# Altium integrated library Xilinx XC4000 E.IntLib: 265 symbols (part 12 of 26)
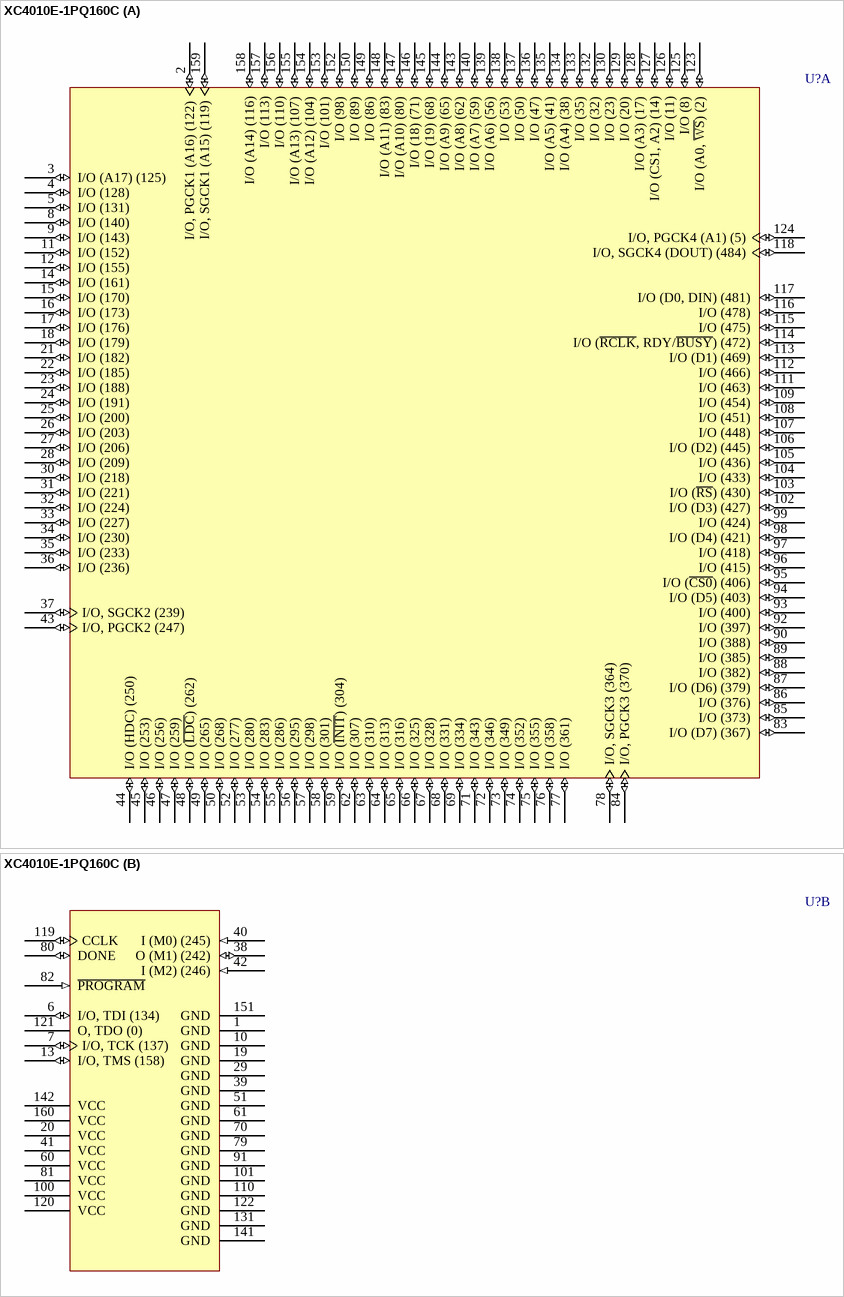
[diagram p282: symbol XC4010E-1PQ160C]

## XC4010E-1PQ160C
designator U?
XC4000E FPGA, 160-Pin PQFP, Commercial Grade; ComponentAvailability: Not for New Design; Published: 28-Feb-2003; LatestRevisionDate: 13-Apr-2006; LatestRevisionNote: IPC-7351 Footprint Added.; DatasheetVersion: (v1.6) May-99; PackageVersion: ver1.2, Jun-2004; PackageReference: PQ160; Publisher: Altium Limited; PackageDescription: 160-Pin Plastic Quad Flat Pack (PQ160); Code_JEDEC: MS-022-DD1; Code_IPC: QFP65P3120X3120-160; ComponentLink1Description: Manufacturer Link; ComponentLink1URL: http://www.xilinx.com/; ComponentLink2Description: Datasheet; ComponentLink2URL: http://direct.xilinx.com/bvdocs/publications/4000.pdf
footprint PQ160_N (QFP, 160-Leads, Body 28 x 28mm, Pitch 0.65mm, IPC Medium Density)
footprint PQ160_L (QFP, 160-Leads, Body 28 x 28mm, Pitch 0.65mm, IPC High Density)
footprint PQ160_M (QFP, 160-Leads, Body 28 x 28mm, Pitch 0.65mm, IPC Low Density)
3D model XC4010E-PQ160 (160-Pin Plastic Quad Flat Pack (PQ160))
part A pins: 2 I/O, PGCK1 (A16) (122) (io), 3 I/O (A17) (125) (io), 4 I/O (128) (io), 5 I/O (131) (io), 8 I/O (140) (io), 9 I/O (143) (io), 11 I/O (152) (io), 12 I/O (155) (io), 14 I/O (161) (io), 15 I/O (170) (io), 16 I/O (173) (io), 17 I/O (176) (io), 18 I/O (179) (io), 21 I/O (182) (io), 22 I/O (185) (io), 23 I/O (188) (io), 24 I/O (191) (io), 25 I/O (200) (io), 26 I/O (203) (io), 27 I/O (206) (io), 28 I/O (209) (io), 30 I/O (218) (io), 31 I/O (221) (io), 32 I/O (224) (io), 33 I/O (227) (io), 34 I/O (230) (io), 35 I/O (233) (io), 36 I/O (236) (io), 37 I/O, SGCK2 (239) (io), 43 I/O, PGCK2 (247) (io), 44 I/O (HDC) (250) (io), 45 I/O (253) (io), 46 I/O (256) (io), 47 I/O (259) (io), 48 I/O (~{LDC}) (262) (io), 49 I/O (265) (io), 50 I/O (268) (io), 52 I/O (277) (io), 53 I/O (280) (io), 54 I/O (283) (io), 55 I/O (286) (io), 56 I/O (295) (io), 57 I/O (298) (io), 58 I/O (301) (io), 59 I/O (~{INIT}) (304) (io), 62 I/O (307) (io), 63 I/O (310) (io), 64 I/O (313) (io), 65 I/O (316) (io), 66 I/O (325) (io), 67 I/O (328) (io), 68 I/O (331) (io), 69 I/O (334) (io), 71 I/O (343) (io), 72 I/O (346) (io), 73 I/O (349) (io), 74 I/O (352) (io), 75 I/O (355) (io), 76 I/O (358) (io), 77 I/O (361) (io), 78 I/O, SGCK3 (364) (io), 83 I/O (D7) (367) (io), 84 I/O, PGCK3 (370) (io), 85 I/O (373) (io), 86 I/O (376) (io), 87 I/O (D6) (379) (io), 88 I/O (382) (io), 89 I/O (385) (io), 90 I/O (388) (io), 92 I/O (397) (io), 93 I/O (400) (io), 94 I/O (D5) (403) (io), 95 I/O (~{CS0}) (406) (io), 96 I/O (415) (io), 97 I/O (418) (io), 98 I/O (D4) (421) (io), 99 I/O (424) (io), 102 I/O (D3) (427) (io), 103 I/O (~{RS}) (430) (io), 104 I/O (433) (io), 105 I/O (436) (io), 106 I/O (D2) (445) (io), 107 I/O (448) (io), 108 I/O (451) (io), 109 I/O (454) (io), 111 I/O (463) (io), 112 I/O (466) (io), 113 I/O (D1) (469) (io), 114 I/O (~{RCLK}, RDY/~{BUSY}) (472) (io), 115 I/O (475) (io), 116 I/O (478) (io), 117 I/O (D0, DIN) (481) (io), 118 I/O, SGCK4 (DOUT) (484) (io), 123 I/O (A0, ~{WS}) (2) (io), 124 I/O, PGCK4 (A1) (5) (io), 125 I/O (8) (io), 126 I/O (11) (io), 127 I/O (CS1, A2) (14) (io), 128 I/O (A3) (17) (io), 129 I/O (20) (io), 130 I/O (23) (io), 132 I/O (32) (io), 133 I/O (35) (io), 134 I/O (A4) (38) (io), 135 I/O (A5) (41) (io), 136 I/O (47) (io), 137 I/O (50) (io), 138 I/O (53) (io), 139 I/O (A6) (56) (io), 140 I/O (A7) (59) (io), 143 I/O (A8) (62) (io), 144 I/O (A9) (65) (io), 145 I/O (19) (68) (io), 146 I/O (18) (71) (io), 147 I/O (A10) (80) (io), 148 I/O (A11) (83) (io), 149 I/O (86) (io), 150 I/O (89) (io), 152 I/O (98) (io), 153 I/O (101) (io), 154 I/O (A12) (104) (io), 155 I/O (A13) (107) (io), 156 I/O (110) (io), 157 I/O (113) (io), 158 I/O (A14) (116) (io), 159 I/O, SGCK1 (A15) (119) (io)
part B pins: 1 GND (power), 6 I/O, TDI (134) (io), 7 I/O, TCK (137) (io), 10 GND (power), 13 I/O, TMS (158) (io), 19 GND (power), 20 VCC (power), 29 GND (power), 38 O (M1) (242) (io), 39 GND (power), 40 I (M0) (245) (in), 41 VCC (power), 42 I (M2) (246) (in), 51 GND (power), 60 VCC (power), 61 GND (power), 70 GND (power), 79 GND (power), 80 DONE (io), 81 VCC (power), 82 ~{PROGRAM} (in), 91 GND (power), 100 VCC (power), 101 GND (power), 110 GND (power), 119 CCLK (io), 120 VCC (power), 121 O, TDO (0) (hiz), 122 GND (power), 131 GND (power), 141 GND (power), 142 VCC (power), 151 GND (power), 160 VCC (power)

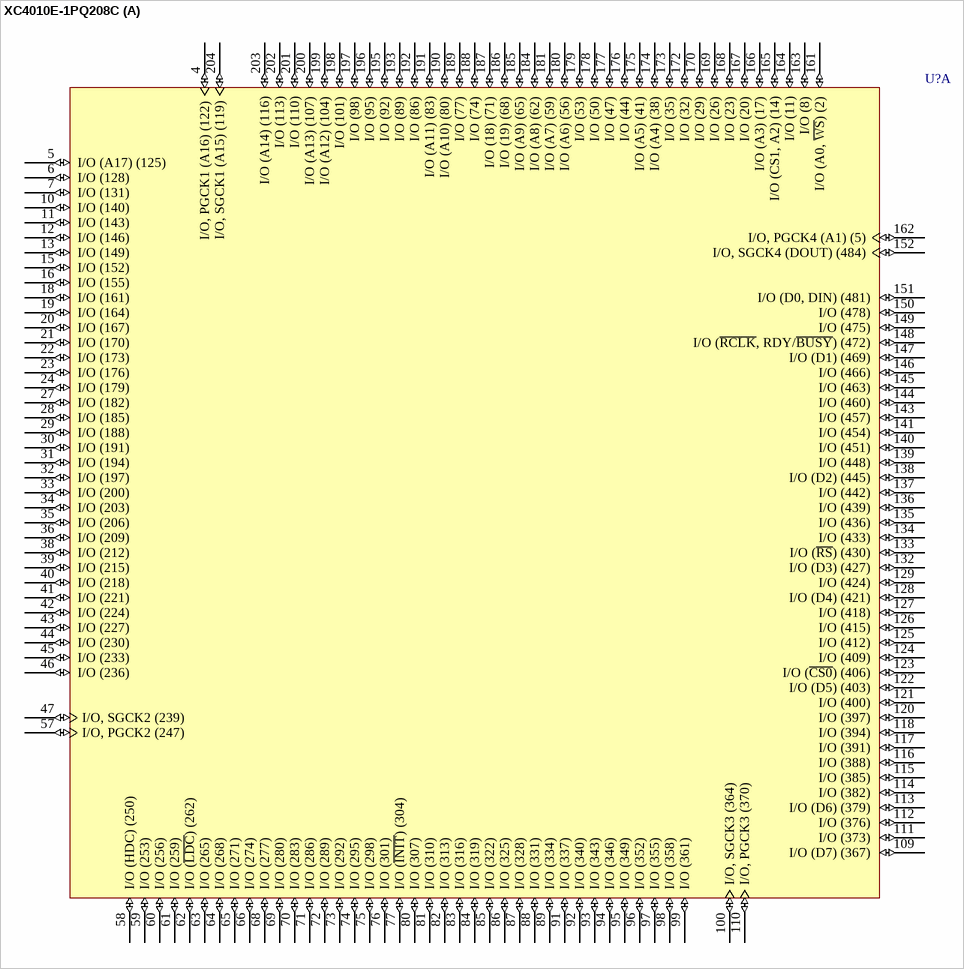
[diagram p102: symbol XC4010E-1PQ208C]

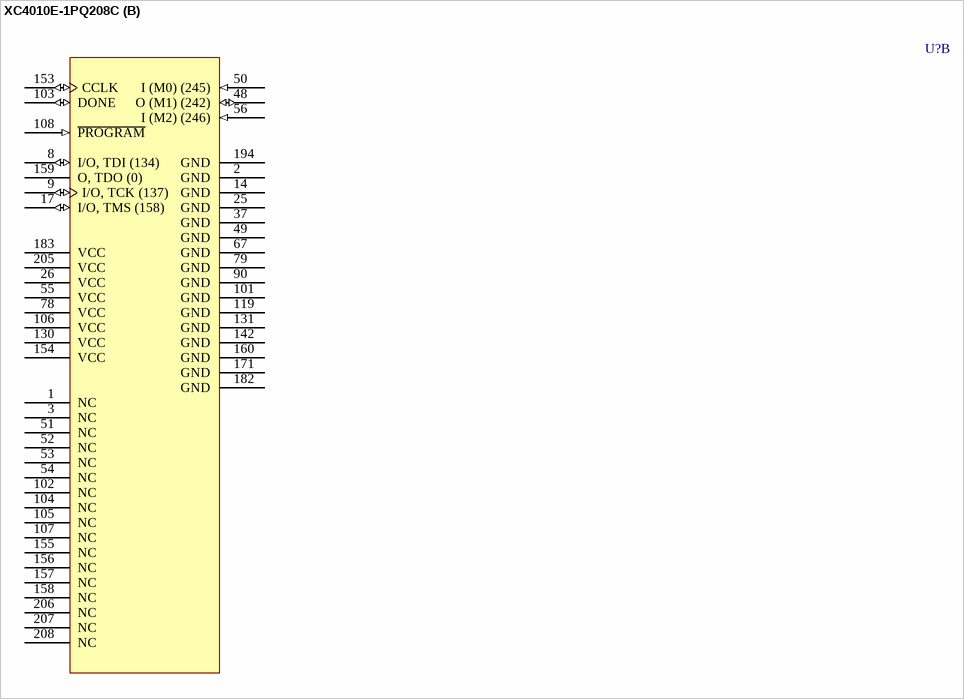
[diagram p103: symbol XC4010E-1PQ208C]

## XC4010E-1PQ208C
designator U?
XC4000E FPGA, 208-Pin PQFP, Commercial Grade; ComponentAvailability: Not for New Design; Published: 28-Feb-2003; LatestRevisionDate: 13-Apr-2006; LatestRevisionNote: IPC-7351 Footprint Added.; DatasheetVersion: (v1.6) May-99; PackageVersion: ver1.2, Jun-2004; PackageReference: PQ208; Publisher: Altium Limited; PackageDescription: 208-Pin Plastic Quad Flat Pack (PQ208); Code_JEDEC: MS-029-FA-1; ComponentLink1Description: Manufacturer Link; ComponentLink1URL: http://www.xilinx.com/; ComponentLink2Description: Datasheet; ComponentLink2URL: http://direct.xilinx.com/bvdocs/publications/4000.pdf
footprint PQ208_N (Shrink QFP, 208-Leads, Body 28x28mm, Pitch 0.5mm, IPC Medium Density)
footprint PQ208_L (Shrink QFP, 208-Leads, Body 28x28mm, Pitch 0.5mm, IPC High Density)
footprint PQ208_M (Shrink QFP, 208-Leads, Body 28x28mm, Pitch 0.5mm, IPC Low Density)
3D model XC4010E-PQ208 (208-Pin Plastic Quad Flat Pack (PQ208))
part A pins: 4 I/O, PGCK1 (A16) (122) (io), 5 I/O (A17) (125) (io), 6 I/O (128) (io), 7 I/O (131) (io), 10 I/O (140) (io), 11 I/O (143) (io), 12 I/O (146) (io), 13 I/O (149) (io), 15 I/O (152) (io), 16 I/O (155) (io), 18 I/O (161) (io), 19 I/O (164) (io), 20 I/O (167) (io), 21 I/O (170) (io), 22 I/O (173) (io), 23 I/O (176) (io), 24 I/O (179) (io), 27 I/O (182) (io), 28 I/O (185) (io), 29 I/O (188) (io), 30 I/O (191) (io), 31 I/O (194) (io), 32 I/O (197) (io), 33 I/O (200) (io), 34 I/O (203) (io), 35 I/O (206) (io), 36 I/O (209) (io), 38 I/O (212) (io), 39 I/O (215) (io), 40 I/O (218) (io), 41 I/O (221) (io), 42 I/O (224) (io), 43 I/O (227) (io), 44 I/O (230) (io), 45 I/O (233) (io), 46 I/O (236) (io), 47 I/O, SGCK2 (239) (io), 57 I/O, PGCK2 (247) (io), 58 I/O (HDC) (250) (io), 59 I/O (253) (io), 60 I/O (256) (io), 61 I/O (259) (io), 62 I/O (~{LDC}) (262) (io), 63 I/O (265) (io), 64 I/O (268) (io), 65 I/O (271) (io), 66 I/O (274) (io), 68 I/O (277) (io), 69 I/O (280) (io), 70 I/O (283) (io), 71 I/O (286) (io), 72 I/O (289) (io), 73 I/O (292) (io), 74 I/O (295) (io), 75 I/O (298) (io), 76 I/O (301) (io), 77 I/O (~{INIT}) (304) (io), 80 I/O (307) (io), 81 I/O (310) (io), 82 I/O (313) (io), 83 I/O (316) (io), 84 I/O (319) (io), 85 I/O (322) (io), 86 I/O (325) (io), 87 I/O (328) (io), 88 I/O (331) (io), 89 I/O (334) (io), 91 I/O (337) (io), 92 I/O (340) (io), 93 I/O (343) (io), 94 I/O (346) (io), 95 I/O (349) (io), 96 I/O (352) (io), 97 I/O (355) (io), 98 I/O (358) (io), 99 I/O (361) (io), 100 I/O, SGCK3 (364) (io), 109 I/O (D7) (367) (io), 110 I/O, PGCK3 (370) (io), 111 I/O (373) (io), 112 I/O (376) (io), 113 I/O (D6) (379) (io), 114 I/O (382) (io), 115 I/O (385) (io), 116 I/O (388) (io), 117 I/O (391) (io), 118 I/O (394) (io), 120 I/O (397) (io), 121 I/O (400) (io), 122 I/O (D5) (403) (io), 123 I/O (~{CS0}) (406) (io), 124 I/O (409) (io), 125 I/O (412) (io), 126 I/O (415) (io), 127 I/O (418) (io), 128 I/O (D4) (421) (io), 129 I/O (424) (io), 132 I/O (D3) (427) (io), 133 I/O (~{RS}) (430) (io), 134 I/O (433) (io), 135 I/O (436) (io), 136 I/O (439) (io), 137 I/O (442) (io), 138 I/O (D2) (445) (io), 139 I/O (448) (io), 140 I/O (451) (io), 141 I/O (454) (io), 143 I/O (457) (io), 144 I/O (460) (io), 145 I/O (463) (io), 146 I/O (466) (io), 147 I/O (D1) (469) (io), 148 I/O (~{RCLK}, RDY/~{BUSY}) (472) (io), 149 I/O (475) (io), 150 I/O (478) (io), 151 I/O (D0, DIN) (481) (io), 152 I/O, SGCK4 (DOUT) (484) (io), 161 I/O (A0, ~{WS}) (2) (io), 162 I/O, PGCK4 (A1) (5) (io), 163 I/O (8) (io), 164 I/O (11) (io), 165 I/O (CS1, A2) (14) (io), 166 I/O (A3) (17) (io), 167 I/O (20) (io), 168 I/O (23) (io), 169 I/O (26) (io), 170 I/O (29) (io), 172 I/O (32) (io), 173 I/O (35) (io), 174 I/O (A4) (38) (io), 175 I/O (A5) (41) (io), 176 I/O (44) (io), 177 I/O (47) (io), 178 I/O (50) (io), 179 I/O (53) (io), 180 I/O (A6) (56) (io), 181 I/O (A7) (59) (io), 184 I/O (A8) (62) (io), 185 I/O (A9) (65) (io), 186 I/O (19) (68) (io), 187 I/O (18) (71) (io), 188 I/O (74) (io), 189 I/O (77) (io), 190 I/O (A10) (80) (io), 191 I/O (A11) (83) (io), 192 I/O (86) (io), 193 I/O (89) (io), 195 I/O (92) (io), 196 I/O (95) (io), 197 I/O (98) (io), 198 I/O (101) (io), 199 I/O (A12) (104) (io), 200 I/O (A13) (107) (io), 201 I/O (110) (io), 202 I/O (113) (io), 203 I/O (A14) (116) (io), 204 I/O, SGCK1 (A15) (119) (io)
part B pins: 1 NC, 2 GND (power), 3 NC, 8 I/O, TDI (134) (io), 9 I/O, TCK (137) (io), 14 GND (power), 17 I/O, TMS (158) (io), 25 GND (power), 26 VCC (power), 37 GND (power), 48 O (M1) (242) (io), 49 GND (power), 50 I (M0) (245) (in), 51 NC, 52 NC, 53 NC, 54 NC, 55 VCC (power), 56 I (M2) (246) (in), 67 GND (power), 78 VCC (power), 79 GND (power), 90 GND (power), 101 GND (power), 102 NC, 103 DONE (io), 104 NC, 105 NC, 106 VCC (power), 107 NC, 108 ~{PROGRAM} (in), 119 GND (power), 130 VCC (power), 131 GND (power), 142 GND (power), 153 CCLK (io), 154 VCC (power), 155 NC, 156 NC, 157 NC, 158 NC, 159 O, TDO (0) (hiz), 160 GND (power), 171 GND (power), 182 GND (power), 183 VCC (power), 194 GND (power), 205 VCC (power), 206 NC, 207 NC, 208 NC

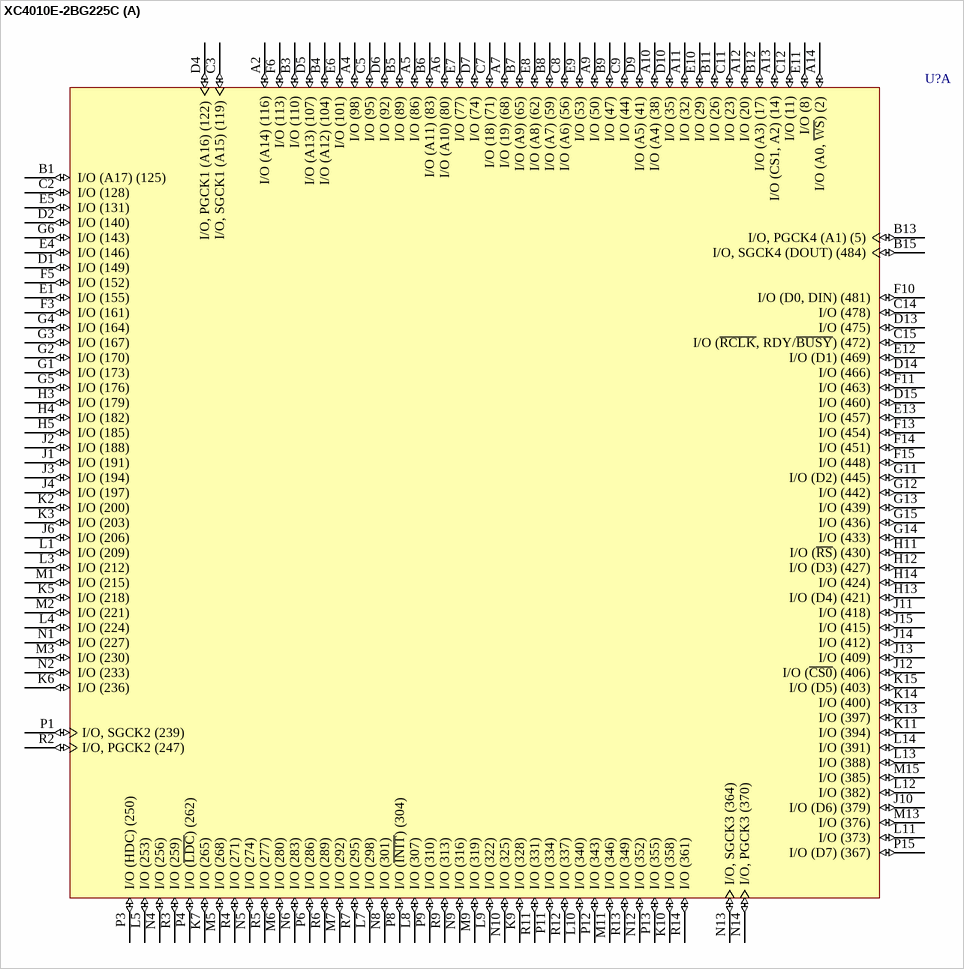
[diagram p104: symbol XC4010E-2BG225C]

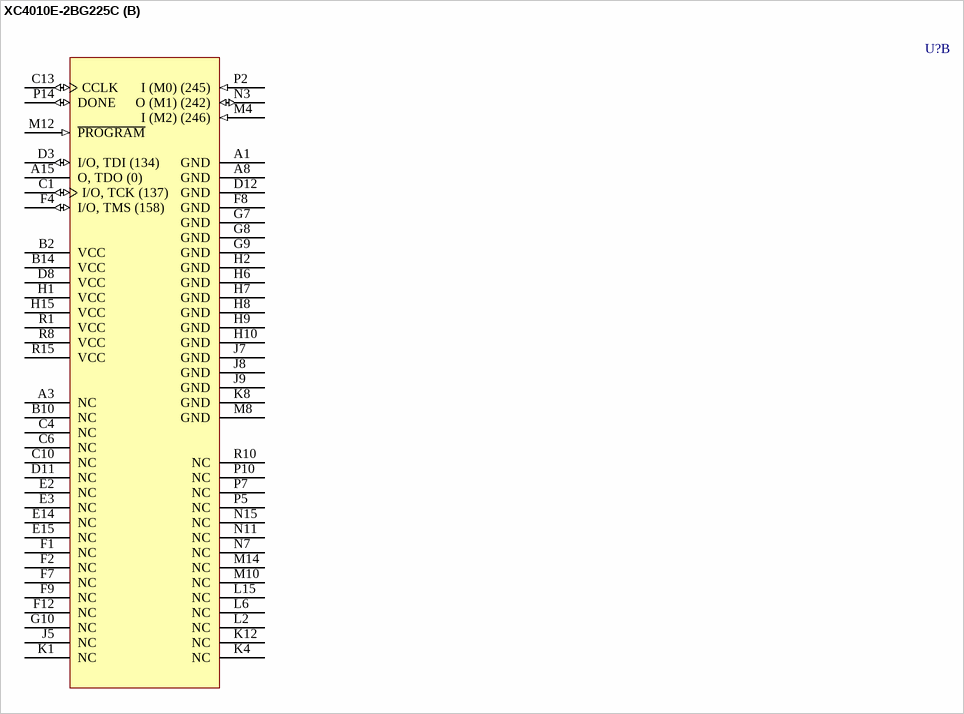
[diagram p105: symbol XC4010E-2BG225C]

## XC4010E-2BG225C
designator U?
XC4000E FPGA, 225-Ball BGA, Commercial Grade; ComponentAvailability: Not for New Design; Published: 28-Feb-2003; LatestRevisionDate: 13-Apr-2006; LatestRevisionNote: IPC-7351 Footprint Added.; DatasheetVersion: (v1.6) May-99; PackageVersion: ver1.1, Apr-2001; PackageReference: BG225; Publisher: Altium Limited; PackageDescription: 225-Ball Plastic Ball Grid Array (BG225); ComponentLink1Description: Manufacturer Link; ComponentLink1URL: http://www.xilinx.com/; ComponentLink2Description: Datasheet; ComponentLink2URL: http://direct.xilinx.com/bvdocs/publications/4000.pdf
footprint BG225 (BGA, 225-Leads, Body 27x27mm, Pitch 1.5mm)
3D model XC4010E-BG225 (225-Ball Plastic Ball Grid Array (BG225))
part A pins: A2 I/O (A14) (116) (io), A4 I/O (98) (io), A5 I/O (86) (io), A6 I/O (A10) (80) (io), A7 I/O (19) (68) (io), A9 I/O (50) (io), A10 I/O (A4) (38) (io), A11 I/O (32) (io), A12 I/O (20) (io), A13 I/O (CS1, A2) (14) (io), A14 I/O (A0, ~{WS}) (2) (io), B1 I/O (A17) (125) (io), B3 I/O (110) (io), B4 I/O (A12) (104) (io), B5 I/O (89) (io), B6 I/O (A11) (83) (io), B7 I/O (A9) (65) (io), B8 I/O (A7) (59) (io), B9 I/O (47) (io), B11 I/O (26) (io), B12 I/O (A3) (17) (io), B13 I/O, PGCK4 (A1) (5) (io), B15 I/O, SGCK4 (DOUT) (484) (io), C2 I/O (128) (io), C3 I/O, SGCK1 (A15) (119) (io), C5 I/O (95) (io), C7 I/O (18) (71) (io), C8 I/O (A6) (56) (io), C9 I/O (44) (io), C11 I/O (23) (io), C12 I/O (11) (io), C14 I/O (478) (io), C15 I/O (~{RCLK}, RDY/~{BUSY}) (472) (io), D1 I/O (149) (io), D2 I/O (140) (io), D4 I/O, PGCK1 (A16) (122) (io), D5 I/O (A13) (107) (io), D6 I/O (92) (io), D7 I/O (74) (io), D9 I/O (A5) (41) (io), D10 I/O (35) (io), D13 I/O (475) (io), D14 I/O (466) (io), D15 I/O (460) (io), E1 I/O (155) (io), E4 I/O (146) (io), E5 I/O (131) (io), E6 I/O (101) (io), E7 I/O (77) (io), E8 I/O (A8) (62) (io), E9 I/O (53) (io), E10 I/O (29) (io), E11 I/O (8) (io), E12 I/O (D1) (469) (io), E13 I/O (457) (io), F3 I/O (161) (io), F5 I/O (152) (io), F6 I/O (113) (io), F10 I/O (D0, DIN) (481) (io), F11 I/O (463) (io), F13 I/O (454) (io), F14 I/O (451) (io), F15 I/O (448) (io), G1 I/O (173) (io), G2 I/O (170) (io), G3 I/O (167) (io), G4 I/O (164) (io), G5 I/O (176) (io), G6 I/O (143) (io), G11 I/O (D2) (445) (io), G12 I/O (442) (io), G13 I/O (439) (io), G14 I/O (433) (io), G15 I/O (436) (io), H3 I/O (179) (io), H4 I/O (182) (io), H5 I/O (185) (io), H11 I/O (~{RS}) (430) (io), H12 I/O (D3) (427) (io), H13 I/O (D4) (421) (io), H14 I/O (424) (io), J1 I/O (191) (io), J2 I/O (188) (io), J3 I/O (194) (io), J4 I/O (197) (io), J6 I/O (206) (io), J10 I/O (D6) (379) (io), J11 I/O (418) (io), J12 I/O (~{CS0}) (406) (io), J13 I/O (409) (io), J14 I/O (412) (io), J15 I/O (415) (io), K2 I/O (200) (io), K3 I/O (203) (io), K5 I/O (218) (io), K6 I/O (236) (io), K7 I/O (265) (io), K9 I/O (328) (io), K10 I/O (358) (io), K11 I/O (394) (io), K13 I/O (397) (io), K14 I/O (400) (io), K15 I/O (D5) (403) (io), L1 I/O (209) (io), L3 I/O (212) (io), L4 I/O (224) (io), L5 I/O (253) (io), L7 I/O (298) (io), L8 I/O (307) (io), L9 I/O (322) (io), L10 I/O (340) (io), L11 I/O (373) (io), L12 I/O (382) (io), L13 I/O (388) (io), L14 I/O (391) (io), M1 I/O (215) (io), M2 I/O (221) (io), M3 I/O (230) (io), M5 I/O (268) (io), M6 I/O (280) (io), M7 I/O (292) (io), M9 I/O (319) (io), M11 I/O (346) (io), M13 I/O (376) (io), M15 I/O (385) (io), N1 I/O (227) (io), N2 I/O (233) (io), N4 I/O (256) (io), N5 I/O (274) (io), N6 I/O (283) (io), N8 I/O (301) (io), N9 I/O (316) (io), N10 I/O (325) (io), N12 I/O (352) (io), N13 I/O, SGCK3 (364) (io), N14 I/O, PGCK3 (370) (io), P1 I/O, SGCK2 (239) (io), P3 I/O (HDC) (250) (io), P4 I/O (~{LDC}) (262) (io), P6 I/O (286) (io), P8 I/O (~{INIT}) (304) (io), P9 I/O (310) (io), P11 I/O (334) (io), P12 I/O (343) (io), P13 I/O (355) (io), P15 I/O (D7) (367) (io), R2 I/O, PGCK2 (247) (io), R3 I/O (259) (io), R4 I/O (271) (io), R5 I/O (277) (io), R6 I/O (289) (io), R7 I/O (295) (io), R9 I/O (313) (io), R11 I/O (331) (io), R12 I/O (337) (io), R13 I/O (349) (io), R14 I/O (361) (io)
part B pins: A1 GND (power), A3 NC, A8 GND (power), A15 O, TDO (0) (hiz), B2 VCC (power), B10 NC, B14 VCC (power), C1 I/O, TCK (137) (io), C4 NC, C6 NC, C10 NC, C13 CCLK (io), D3 I/O, TDI (134) (io), D8 VCC (power), D11 NC, D12 GND (power), E2 NC, E3 NC, E14 NC, E15 NC, F1 NC, F2 NC, F4 I/O, TMS (158) (io), F7 NC, F8 GND (power), F9 NC, F12 NC, G7 GND (power), G8 GND (power), G9 GND (power), G10 NC, H1 VCC (power), H2 GND (power), H6 GND (power), H7 GND (power), H8 GND (power), H9 GND (power), H10 GND (power), H15 VCC (power), J5 NC, J7 GND (power), J8 GND (power), J9 GND (power), K1 NC, K4 NC, K8 GND (power), K12 NC, L2 NC, L6 NC, L15 NC, M4 I (M2) (246) (in), M8 GND (power), M10 NC, M12 ~{PROGRAM} (in), M14 NC, N3 O (M1) (242) (io), N7 NC, N11 NC, N15 NC, P2 I (M0) (245) (in), P5 NC, P7 NC, P10 NC, P14 DONE (io), R1 VCC (power), R8 VCC (power), R10 NC, R15 VCC (power)

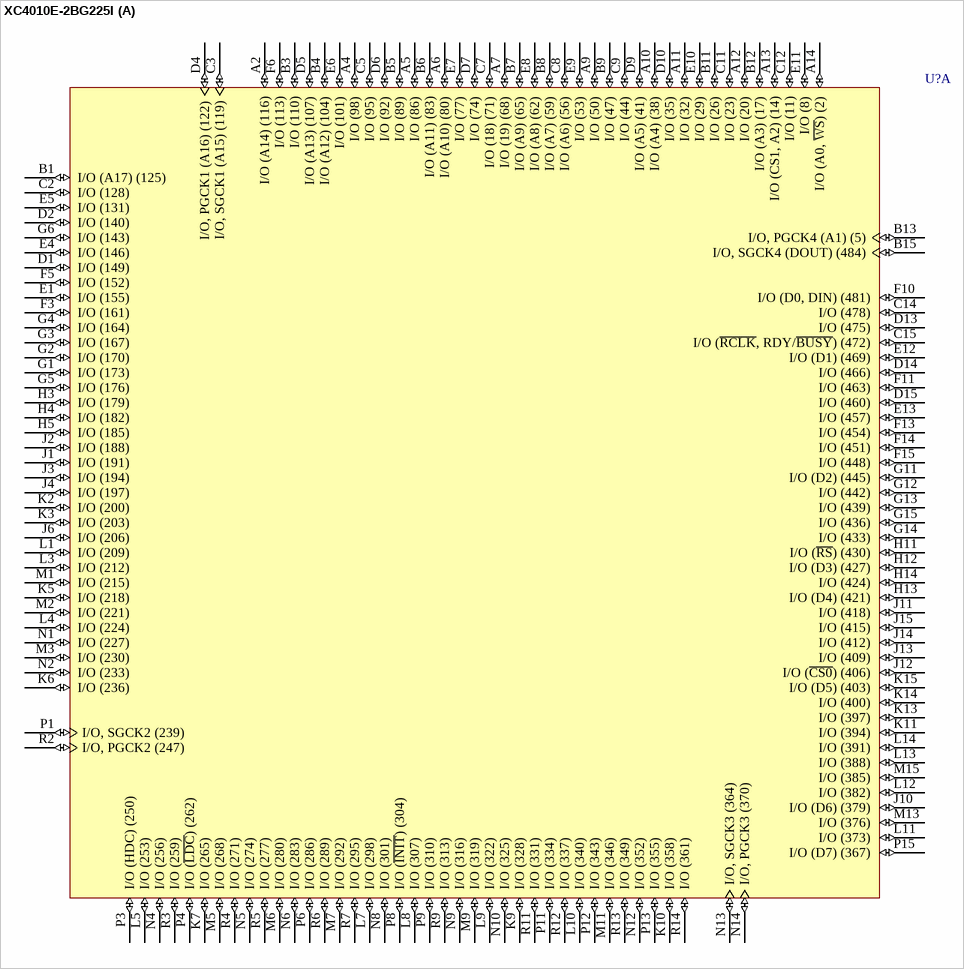
[diagram p106: symbol XC4010E-2BG225I]

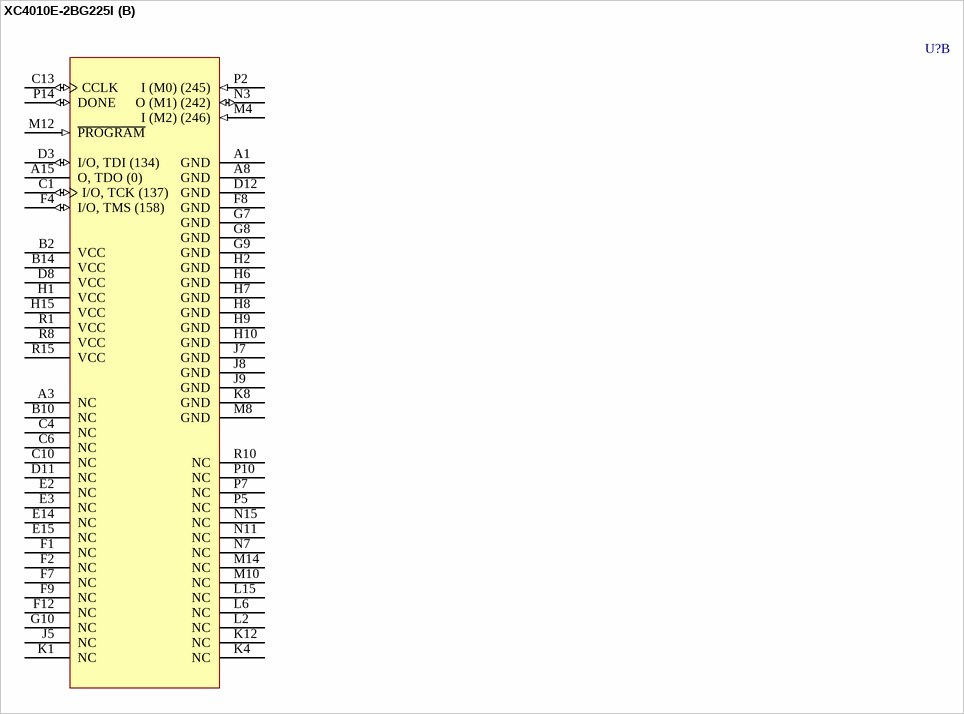
[diagram p107: symbol XC4010E-2BG225I]

## XC4010E-2BG225I
designator U?
XC4000E FPGA, 225-Ball BGA, Industrial Grade; ComponentAvailability: Not for New Design; Published: 28-Feb-2003; LatestRevisionDate: 13-Apr-2006; LatestRevisionNote: IPC-7351 Footprint Added.; DatasheetVersion: (v1.6) May-99; PackageVersion: ver1.1, Apr-2001; PackageReference: BG225; Publisher: Altium Limited; PackageDescription: 225-Ball Plastic Ball Grid Array (BG225); ComponentLink1Description: Manufacturer Link; ComponentLink1URL: http://www.xilinx.com/; ComponentLink2Description: Datasheet; ComponentLink2URL: http://direct.xilinx.com/bvdocs/publications/4000.pdf
footprint BG225 (BGA, 225-Leads, Body 27x27mm, Pitch 1.5mm)
3D model XC4010E-BG225 (225-Ball Plastic Ball Grid Array (BG225))
part A pins: A2 I/O (A14) (116) (io), A4 I/O (98) (io), A5 I/O (86) (io), A6 I/O (A10) (80) (io), A7 I/O (19) (68) (io), A9 I/O (50) (io), A10 I/O (A4) (38) (io), A11 I/O (32) (io), A12 I/O (20) (io), A13 I/O (CS1, A2) (14) (io), A14 I/O (A0, ~{WS}) (2) (io), B1 I/O (A17) (125) (io), B3 I/O (110) (io), B4 I/O (A12) (104) (io), B5 I/O (89) (io), B6 I/O (A11) (83) (io), B7 I/O (A9) (65) (io), B8 I/O (A7) (59) (io), B9 I/O (47) (io), B11 I/O (26) (io), B12 I/O (A3) (17) (io), B13 I/O, PGCK4 (A1) (5) (io), B15 I/O, SGCK4 (DOUT) (484) (io), C2 I/O (128) (io), C3 I/O, SGCK1 (A15) (119) (io), C5 I/O (95) (io), C7 I/O (18) (71) (io), C8 I/O (A6) (56) (io), C9 I/O (44) (io), C11 I/O (23) (io), C12 I/O (11) (io), C14 I/O (478) (io), C15 I/O (~{RCLK}, RDY/~{BUSY}) (472) (io), D1 I/O (149) (io), D2 I/O (140) (io), D4 I/O, PGCK1 (A16) (122) (io), D5 I/O (A13) (107) (io), D6 I/O (92) (io), D7 I/O (74) (io), D9 I/O (A5) (41) (io), D10 I/O (35) (io), D13 I/O (475) (io), D14 I/O (466) (io), D15 I/O (460) (io), E1 I/O (155) (io), E4 I/O (146) (io), E5 I/O (131) (io), E6 I/O (101) (io), E7 I/O (77) (io), E8 I/O (A8) (62) (io), E9 I/O (53) (io), E10 I/O (29) (io), E11 I/O (8) (io), E12 I/O (D1) (469) (io), E13 I/O (457) (io), F3 I/O (161) (io), F5 I/O (152) (io), F6 I/O (113) (io), F10 I/O (D0, DIN) (481) (io), F11 I/O (463) (io), F13 I/O (454) (io), F14 I/O (451) (io), F15 I/O (448) (io), G1 I/O (173) (io), G2 I/O (170) (io), G3 I/O (167) (io), G4 I/O (164) (io), G5 I/O (176) (io), G6 I/O (143) (io), G11 I/O (D2) (445) (io), G12 I/O (442) (io), G13 I/O (439) (io), G14 I/O (433) (io), G15 I/O (436) (io), H3 I/O (179) (io), H4 I/O (182) (io), H5 I/O (185) (io), H11 I/O (~{RS}) (430) (io), H12 I/O (D3) (427) (io), H13 I/O (D4) (421) (io), H14 I/O (424) (io), J1 I/O (191) (io), J2 I/O (188) (io), J3 I/O (194) (io), J4 I/O (197) (io), J6 I/O (206) (io), J10 I/O (D6) (379) (io), J11 I/O (418) (io), J12 I/O (~{CS0}) (406) (io), J13 I/O (409) (io), J14 I/O (412) (io), J15 I/O (415) (io), K2 I/O (200) (io), K3 I/O (203) (io), K5 I/O (218) (io), K6 I/O (236) (io), K7 I/O (265) (io), K9 I/O (328) (io), K10 I/O (358) (io), K11 I/O (394) (io), K13 I/O (397) (io), K14 I/O (400) (io), K15 I/O (D5) (403) (io), L1 I/O (209) (io), L3 I/O (212) (io), L4 I/O (224) (io), L5 I/O (253) (io), L7 I/O (298) (io), L8 I/O (307) (io), L9 I/O (322) (io), L10 I/O (340) (io), L11 I/O (373) (io), L12 I/O (382) (io), L13 I/O (388) (io), L14 I/O (391) (io), M1 I/O (215) (io), M2 I/O (221) (io), M3 I/O (230) (io), M5 I/O (268) (io), M6 I/O (280) (io), M7 I/O (292) (io), M9 I/O (319) (io), M11 I/O (346) (io), M13 I/O (376) (io), M15 I/O (385) (io), N1 I/O (227) (io), N2 I/O (233) (io), N4 I/O (256) (io), N5 I/O (274) (io), N6 I/O (283) (io), N8 I/O (301) (io), N9 I/O (316) (io), N10 I/O (325) (io), N12 I/O (352) (io), N13 I/O, SGCK3 (364) (io), N14 I/O, PGCK3 (370) (io), P1 I/O, SGCK2 (239) (io), P3 I/O (HDC) (250) (io), P4 I/O (~{LDC}) (262) (io), P6 I/O (286) (io), P8 I/O (~{INIT}) (304) (io), P9 I/O (310) (io), P11 I/O (334) (io), P12 I/O (343) (io), P13 I/O (355) (io), P15 I/O (D7) (367) (io), R2 I/O, PGCK2 (247) (io), R3 I/O (259) (io), R4 I/O (271) (io), R5 I/O (277) (io), R6 I/O (289) (io), R7 I/O (295) (io), R9 I/O (313) (io), R11 I/O (331) (io), R12 I/O (337) (io), R13 I/O (349) (io), R14 I/O (361) (io)
part B pins: A1 GND (power), A3 NC, A8 GND (power), A15 O, TDO (0) (hiz), B2 VCC (power), B10 NC, B14 VCC (power), C1 I/O, TCK (137) (io), C4 NC, C6 NC, C10 NC, C13 CCLK (io), D3 I/O, TDI (134) (io), D8 VCC (power), D11 NC, D12 GND (power), E2 NC, E3 NC, E14 NC, E15 NC, F1 NC, F2 NC, F4 I/O, TMS (158) (io), F7 NC, F8 GND (power), F9 NC, F12 NC, G7 GND (power), G8 GND (power), G9 GND (power), G10 NC, H1 VCC (power), H2 GND (power), H6 GND (power), H7 GND (power), H8 GND (power), H9 GND (power), H10 GND (power), H15 VCC (power), J5 NC, J7 GND (power), J8 GND (power), J9 GND (power), K1 NC, K4 NC, K8 GND (power), K12 NC, L2 NC, L6 NC, L15 NC, M4 I (M2) (246) (in), M8 GND (power), M10 NC, M12 ~{PROGRAM} (in), M14 NC, N3 O (M1) (242) (io), N7 NC, N11 NC, N15 NC, P2 I (M0) (245) (in), P5 NC, P7 NC, P10 NC, P14 DONE (io), R1 VCC (power), R8 VCC (power), R10 NC, R15 VCC (power)

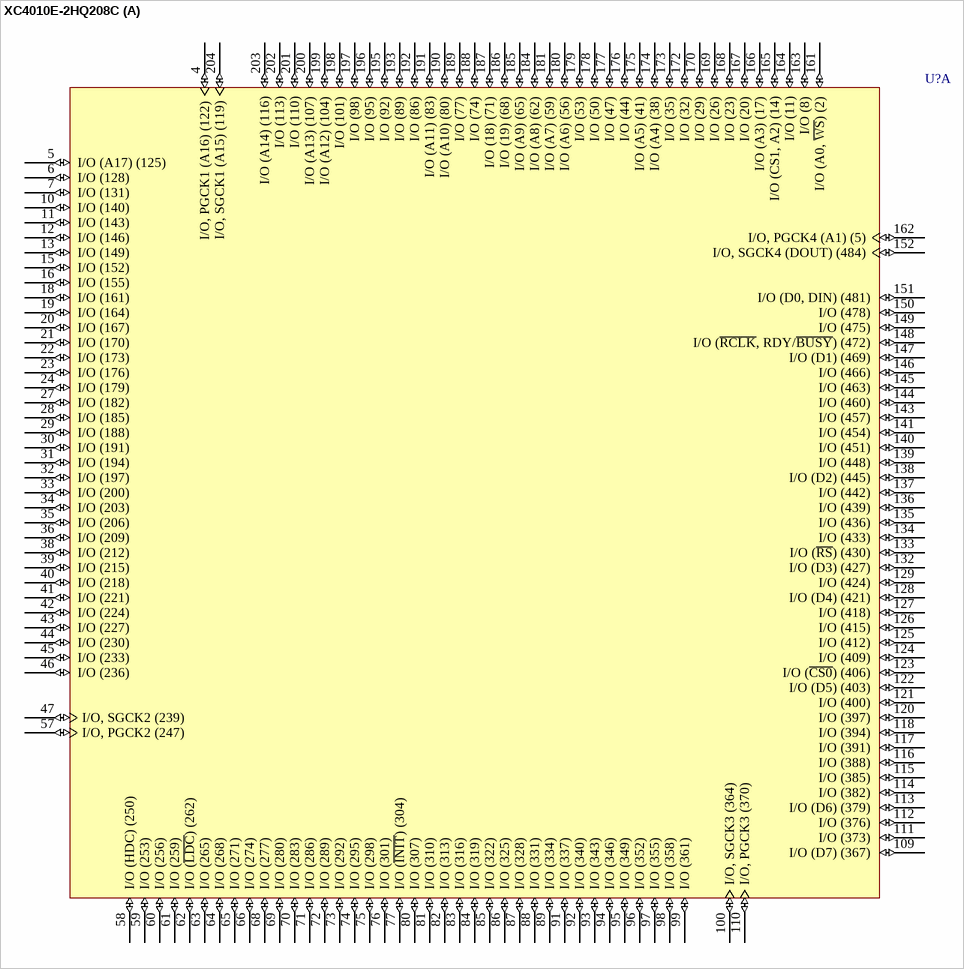
[diagram p108: symbol XC4010E-2HQ208C]

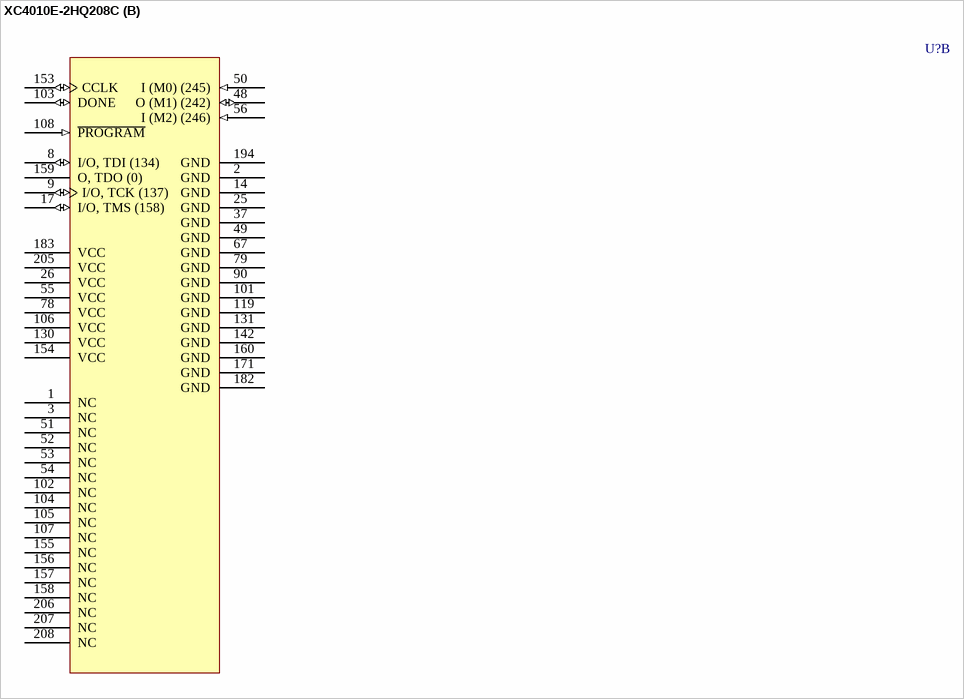
[diagram p109: symbol XC4010E-2HQ208C]

## XC4010E-2HQ208C
designator U?
XC4000E FPGA, 208-Pin HQFP, Commercial Grade; ComponentAvailability: Not for New Design; Published: 28-Feb-2003; LatestRevisionDate: 13-Apr-2006; LatestRevisionNote: IPC-7351 Footprint Added.; DatasheetVersion: (v1.6) May-99; PackageVersion: ver1.2, Jun-2004; PackageReference: HQ208; Publisher: Altium Limited; PackageDescription: 208-Pin Heat Sink Quad Flat Pack (HQ208); Code_JEDEC: MS-029-FA-1; ComponentLink1Description: Manufacturer Link; ComponentLink1URL: http://www.xilinx.com/; ComponentLink2Description: Datasheet; ComponentLink2URL: http://direct.xilinx.com/bvdocs/publications/4000.pdf; ComponentLink3Description: Discontinuation Notice; ComponentLink3URL: http://direct.xilinx.com/bvdocs/notifications/pdn2004-21.pdf
footprint HQ208_N (Shrink QFP, 208-Leads, Body 28x28mm, Pitch 0.5mm, IPC Medium Density)
footprint HQ208_L (Shrink QFP, 208-Leads, Body 28x28mm, Pitch 0.5mm, IPC High Density)
footprint HQ208_M (Shrink QFP, 208-Leads, Body 28x28mm, Pitch 0.5mm, IPC Low Density)
3D model XC4010E-HQ208 (208-Pin Heat Sink Quad Flat Pack (HQ208))
part A pins: 4 I/O, PGCK1 (A16) (122) (io), 5 I/O (A17) (125) (io), 6 I/O (128) (io), 7 I/O (131) (io), 10 I/O (140) (io), 11 I/O (143) (io), 12 I/O (146) (io), 13 I/O (149) (io), 15 I/O (152) (io), 16 I/O (155) (io), 18 I/O (161) (io), 19 I/O (164) (io), 20 I/O (167) (io), 21 I/O (170) (io), 22 I/O (173) (io), 23 I/O (176) (io), 24 I/O (179) (io), 27 I/O (182) (io), 28 I/O (185) (io), 29 I/O (188) (io), 30 I/O (191) (io), 31 I/O (194) (io), 32 I/O (197) (io), 33 I/O (200) (io), 34 I/O (203) (io), 35 I/O (206) (io), 36 I/O (209) (io), 38 I/O (212) (io), 39 I/O (215) (io), 40 I/O (218) (io), 41 I/O (221) (io), 42 I/O (224) (io), 43 I/O (227) (io), 44 I/O (230) (io), 45 I/O (233) (io), 46 I/O (236) (io), 47 I/O, SGCK2 (239) (io), 57 I/O, PGCK2 (247) (io), 58 I/O (HDC) (250) (io), 59 I/O (253) (io), 60 I/O (256) (io), 61 I/O (259) (io), 62 I/O (~{LDC}) (262) (io), 63 I/O (265) (io), 64 I/O (268) (io), 65 I/O (271) (io), 66 I/O (274) (io), 68 I/O (277) (io), 69 I/O (280) (io), 70 I/O (283) (io), 71 I/O (286) (io), 72 I/O (289) (io), 73 I/O (292) (io), 74 I/O (295) (io), 75 I/O (298) (io), 76 I/O (301) (io), 77 I/O (~{INIT}) (304) (io), 80 I/O (307) (io), 81 I/O (310) (io), 82 I/O (313) (io), 83 I/O (316) (io), 84 I/O (319) (io), 85 I/O (322) (io), 86 I/O (325) (io), 87 I/O (328) (io), 88 I/O (331) (io), 89 I/O (334) (io), 91 I/O (337) (io), 92 I/O (340) (io), 93 I/O (343) (io), 94 I/O (346) (io), 95 I/O (349) (io), 96 I/O (352) (io), 97 I/O (355) (io), 98 I/O (358) (io), 99 I/O (361) (io), 100 I/O, SGCK3 (364) (io), 109 I/O (D7) (367) (io), 110 I/O, PGCK3 (370) (io), 111 I/O (373) (io), 112 I/O (376) (io), 113 I/O (D6) (379) (io), 114 I/O (382) (io), 115 I/O (385) (io), 116 I/O (388) (io), 117 I/O (391) (io), 118 I/O (394) (io), 120 I/O (397) (io), 121 I/O (400) (io), 122 I/O (D5) (403) (io), 123 I/O (~{CS0}) (406) (io), 124 I/O (409) (io), 125 I/O (412) (io), 126 I/O (415) (io), 127 I/O (418) (io), 128 I/O (D4) (421) (io), 129 I/O (424) (io), 132 I/O (D3) (427) (io), 133 I/O (~{RS}) (430) (io), 134 I/O (433) (io), 135 I/O (436) (io), 136 I/O (439) (io), 137 I/O (442) (io), 138 I/O (D2) (445) (io), 139 I/O (448) (io), 140 I/O (451) (io), 141 I/O (454) (io), 143 I/O (457) (io), 144 I/O (460) (io), 145 I/O (463) (io), 146 I/O (466) (io), 147 I/O (D1) (469) (io), 148 I/O (~{RCLK}, RDY/~{BUSY}) (472) (io), 149 I/O (475) (io), 150 I/O (478) (io), 151 I/O (D0, DIN) (481) (io), 152 I/O, SGCK4 (DOUT) (484) (io), 161 I/O (A0, ~{WS}) (2) (io), 162 I/O, PGCK4 (A1) (5) (io), 163 I/O (8) (io), 164 I/O (11) (io), 165 I/O (CS1, A2) (14) (io), 166 I/O (A3) (17) (io), 167 I/O (20) (io), 168 I/O (23) (io), 169 I/O (26) (io), 170 I/O (29) (io), 172 I/O (32) (io), 173 I/O (35) (io), 174 I/O (A4) (38) (io), 175 I/O (A5) (41) (io), 176 I/O (44) (io), 177 I/O (47) (io), 178 I/O (50) (io), 179 I/O (53) (io), 180 I/O (A6) (56) (io), 181 I/O (A7) (59) (io), 184 I/O (A8) (62) (io), 185 I/O (A9) (65) (io), 186 I/O (19) (68) (io), 187 I/O (18) (71) (io), 188 I/O (74) (io), 189 I/O (77) (io), 190 I/O (A10) (80) (io), 191 I/O (A11) (83) (io), 192 I/O (86) (io), 193 I/O (89) (io), 195 I/O (92) (io), 196 I/O (95) (io), 197 I/O (98) (io), 198 I/O (101) (io), 199 I/O (A12) (104) (io), 200 I/O (A13) (107) (io), 201 I/O (110) (io), 202 I/O (113) (io), 203 I/O (A14) (116) (io), 204 I/O, SGCK1 (A15) (119) (io)
part B pins: 1 NC, 2 GND (power), 3 NC, 8 I/O, TDI (134) (io), 9 I/O, TCK (137) (io), 14 GND (power), 17 I/O, TMS (158) (io), 25 GND (power), 26 VCC (power), 37 GND (power), 48 O (M1) (242) (io), 49 GND (power), 50 I (M0) (245) (in), 51 NC, 52 NC, 53 NC, 54 NC, 55 VCC (power), 56 I (M2) (246) (in), 67 GND (power), 78 VCC (power), 79 GND (power), 90 GND (power), 101 GND (power), 102 NC, 103 DONE (io), 104 NC, 105 NC, 106 VCC (power), 107 NC, 108 ~{PROGRAM} (in), 119 GND (power), 130 VCC (power), 131 GND (power), 142 GND (power), 153 CCLK (io), 154 VCC (power), 155 NC, 156 NC, 157 NC, 158 NC, 159 O, TDO (0) (hiz), 160 GND (power), 171 GND (power), 182 GND (power), 183 VCC (power), 194 GND (power), 205 VCC (power), 206 NC, 207 NC, 208 NC

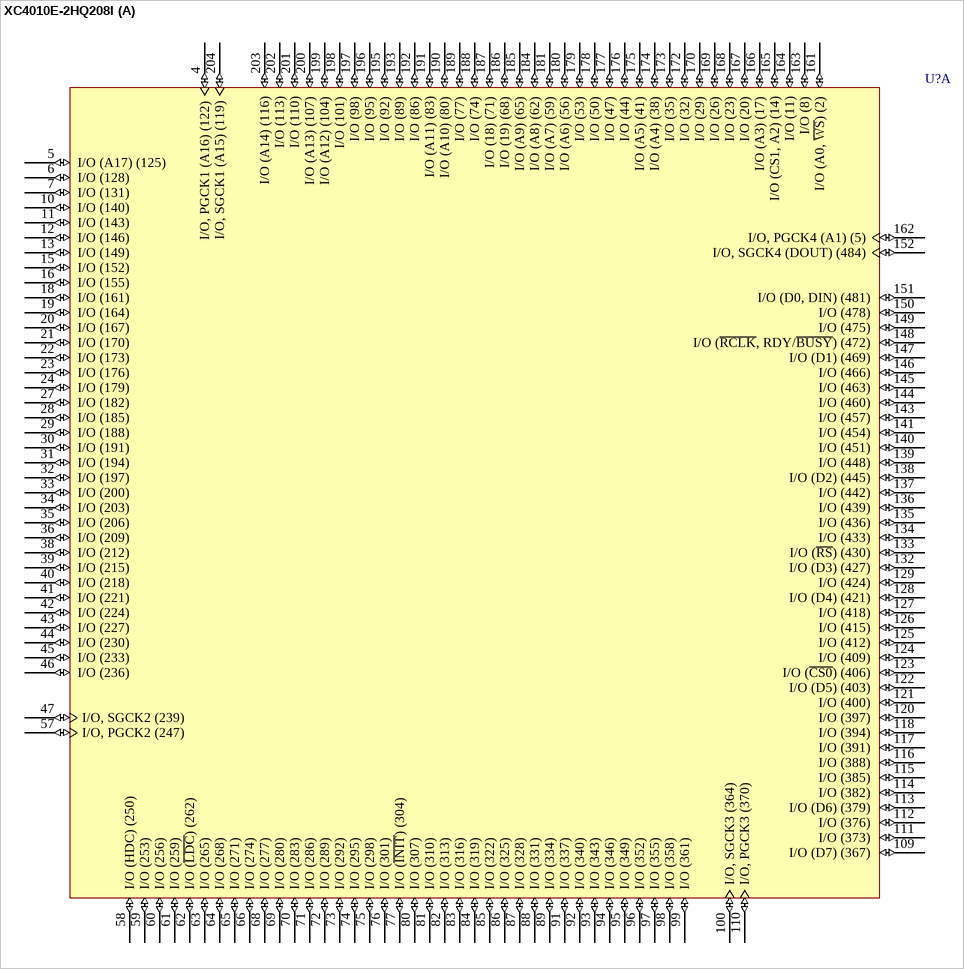
[diagram p110: symbol XC4010E-2HQ208I]

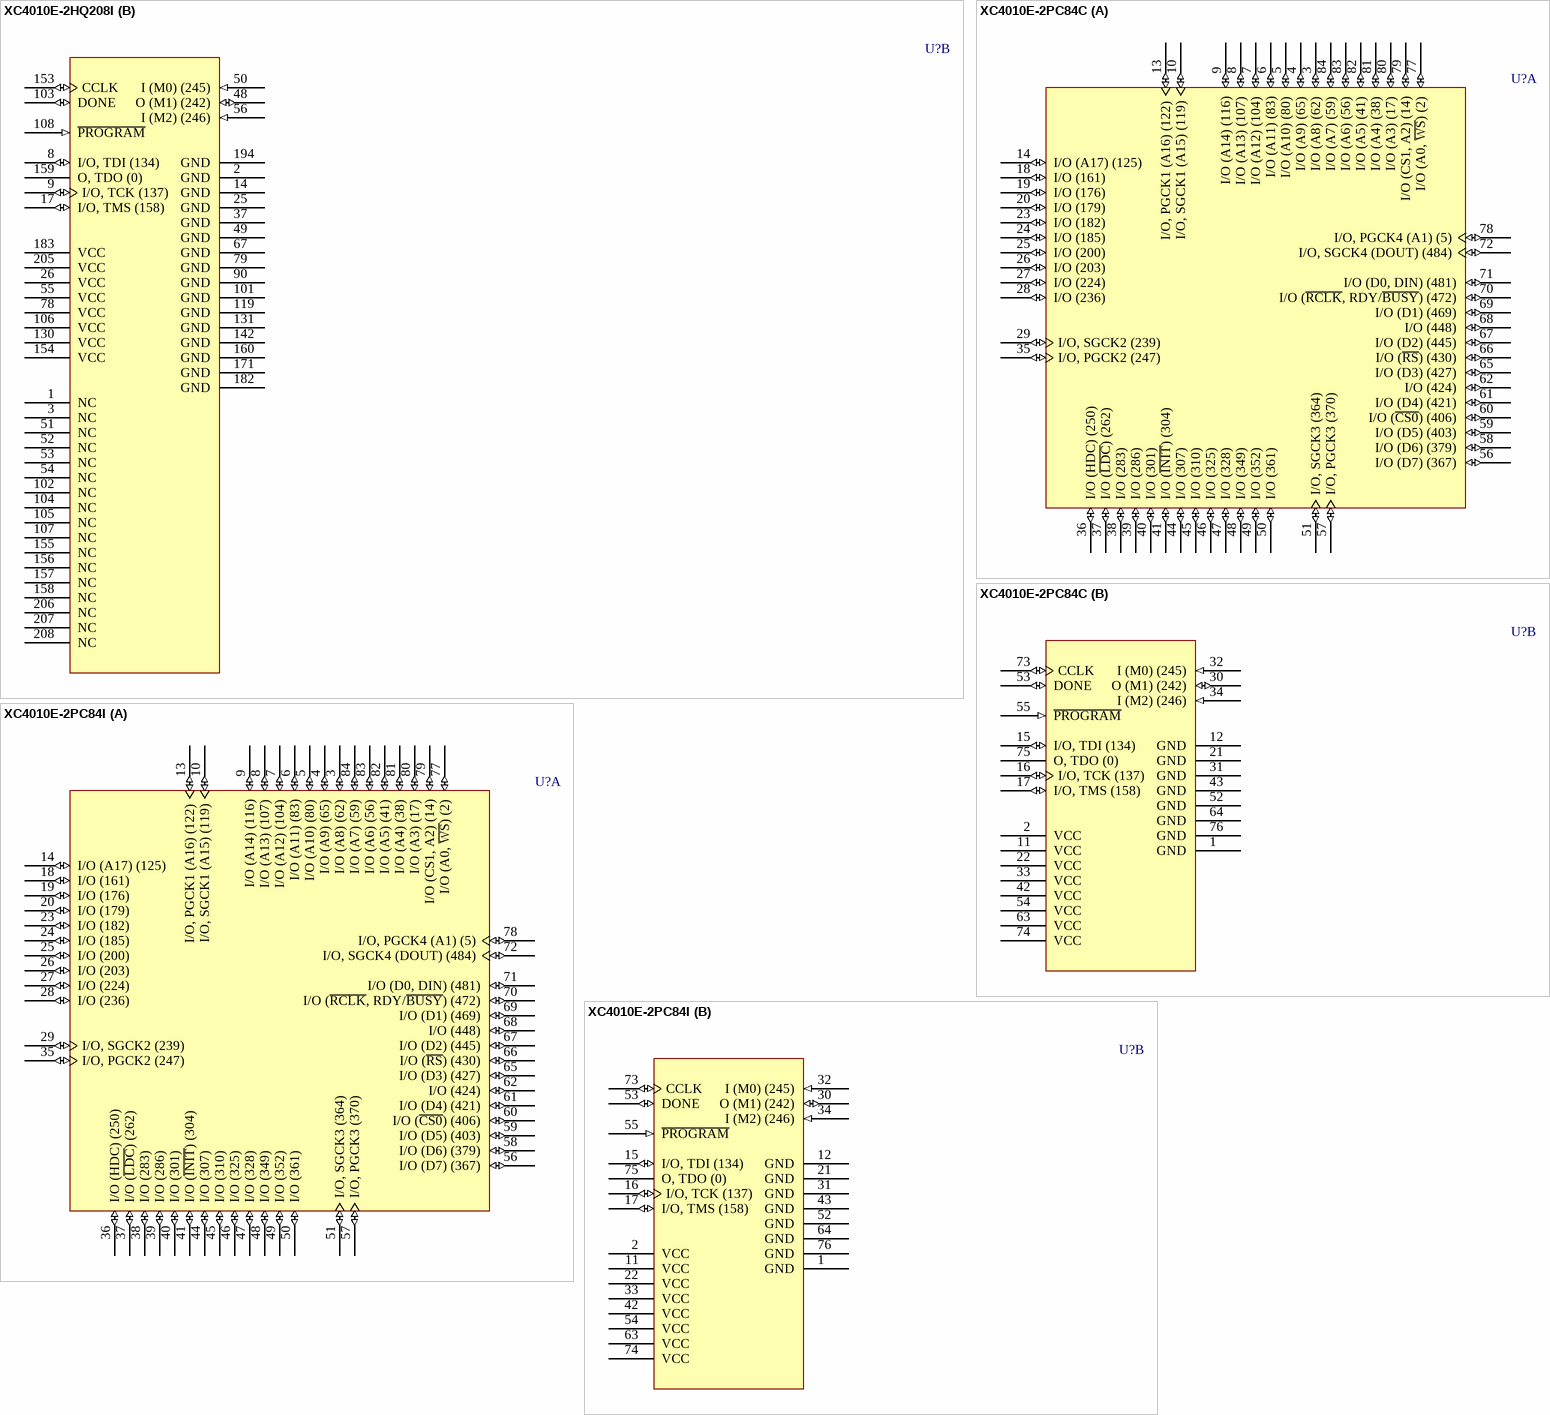
[diagram p111: symbols XC4010E-2HQ208I to XC4010E-2PC84I]

## XC4010E-2HQ208I
designator U?
XC4000E FPGA, 208-Pin HQFP, Industrial Grade; ComponentAvailability: Not for New Design; Published: 28-Feb-2003; LatestRevisionDate: 13-Apr-2006; LatestRevisionNote: IPC-7351 Footprint Added.; DatasheetVersion: (v1.6) May-99; PackageVersion: ver1.2, Jun-2004; PackageReference: HQ208; Publisher: Altium Limited; PackageDescription: 208-Pin Heat Sink Quad Flat Pack (HQ208); Code_JEDEC: MS-029-FA-1; ComponentLink1Description: Manufacturer Link; ComponentLink1URL: http://www.xilinx.com/; ComponentLink2Description: Datasheet; ComponentLink2URL: http://direct.xilinx.com/bvdocs/publications/4000.pdf; ComponentLink3Description: Discontinuation Notice; ComponentLink3URL: http://direct.xilinx.com/bvdocs/notifications/pdn2004-21.pdf
footprint HQ208_N (Shrink QFP, 208-Leads, Body 28x28mm, Pitch 0.5mm, IPC Medium Density)
footprint HQ208_L (Shrink QFP, 208-Leads, Body 28x28mm, Pitch 0.5mm, IPC High Density)
footprint HQ208_M (Shrink QFP, 208-Leads, Body 28x28mm, Pitch 0.5mm, IPC Low Density)
3D model XC4010E-HQ208 (208-Pin Heat Sink Quad Flat Pack (HQ208))
part A pins: 4 I/O, PGCK1 (A16) (122) (io), 5 I/O (A17) (125) (io), 6 I/O (128) (io), 7 I/O (131) (io), 10 I/O (140) (io), 11 I/O (143) (io), 12 I/O (146) (io), 13 I/O (149) (io), 15 I/O (152) (io), 16 I/O (155) (io), 18 I/O (161) (io), 19 I/O (164) (io), 20 I/O (167) (io), 21 I/O (170) (io), 22 I/O (173) (io), 23 I/O (176) (io), 24 I/O (179) (io), 27 I/O (182) (io), 28 I/O (185) (io), 29 I/O (188) (io), 30 I/O (191) (io), 31 I/O (194) (io), 32 I/O (197) (io), 33 I/O (200) (io), 34 I/O (203) (io), 35 I/O (206) (io), 36 I/O (209) (io), 38 I/O (212) (io), 39 I/O (215) (io), 40 I/O (218) (io), 41 I/O (221) (io), 42 I/O (224) (io), 43 I/O (227) (io), 44 I/O (230) (io), 45 I/O (233) (io), 46 I/O (236) (io), 47 I/O, SGCK2 (239) (io), 57 I/O, PGCK2 (247) (io), 58 I/O (HDC) (250) (io), 59 I/O (253) (io), 60 I/O (256) (io), 61 I/O (259) (io), 62 I/O (~{LDC}) (262) (io), 63 I/O (265) (io), 64 I/O (268) (io), 65 I/O (271) (io), 66 I/O (274) (io), 68 I/O (277) (io), 69 I/O (280) (io), 70 I/O (283) (io), 71 I/O (286) (io), 72 I/O (289) (io), 73 I/O (292) (io), 74 I/O (295) (io), 75 I/O (298) (io), 76 I/O (301) (io), 77 I/O (~{INIT}) (304) (io), 80 I/O (307) (io), 81 I/O (310) (io), 82 I/O (313) (io), 83 I/O (316) (io), 84 I/O (319) (io), 85 I/O (322) (io), 86 I/O (325) (io), 87 I/O (328) (io), 88 I/O (331) (io), 89 I/O (334) (io), 91 I/O (337) (io), 92 I/O (340) (io), 93 I/O (343) (io), 94 I/O (346) (io), 95 I/O (349) (io), 96 I/O (352) (io), 97 I/O (355) (io), 98 I/O (358) (io), 99 I/O (361) (io), 100 I/O, SGCK3 (364) (io), 109 I/O (D7) (367) (io), 110 I/O, PGCK3 (370) (io), 111 I/O (373) (io), 112 I/O (376) (io), 113 I/O (D6) (379) (io), 114 I/O (382) (io), 115 I/O (385) (io), 116 I/O (388) (io), 117 I/O (391) (io), 118 I/O (394) (io), 120 I/O (397) (io), 121 I/O (400) (io), 122 I/O (D5) (403) (io), 123 I/O (~{CS0}) (406) (io), 124 I/O (409) (io), 125 I/O (412) (io), 126 I/O (415) (io), 127 I/O (418) (io), 128 I/O (D4) (421) (io), 129 I/O (424) (io), 132 I/O (D3) (427) (io), 133 I/O (~{RS}) (430) (io), 134 I/O (433) (io), 135 I/O (436) (io), 136 I/O (439) (io), 137 I/O (442) (io), 138 I/O (D2) (445) (io), 139 I/O (448) (io), 140 I/O (451) (io), 141 I/O (454) (io), 143 I/O (457) (io), 144 I/O (460) (io), 145 I/O (463) (io), 146 I/O (466) (io), 147 I/O (D1) (469) (io), 148 I/O (~{RCLK}, RDY/~{BUSY}) (472) (io), 149 I/O (475) (io), 150 I/O (478) (io), 151 I/O (D0, DIN) (481) (io), 152 I/O, SGCK4 (DOUT) (484) (io), 161 I/O (A0, ~{WS}) (2) (io), 162 I/O, PGCK4 (A1) (5) (io), 163 I/O (8) (io), 164 I/O (11) (io), 165 I/O (CS1, A2) (14) (io), 166 I/O (A3) (17) (io), 167 I/O (20) (io), 168 I/O (23) (io), 169 I/O (26) (io), 170 I/O (29) (io), 172 I/O (32) (io), 173 I/O (35) (io), 174 I/O (A4) (38) (io), 175 I/O (A5) (41) (io), 176 I/O (44) (io), 177 I/O (47) (io), 178 I/O (50) (io), 179 I/O (53) (io), 180 I/O (A6) (56) (io), 181 I/O (A7) (59) (io), 184 I/O (A8) (62) (io), 185 I/O (A9) (65) (io), 186 I/O (19) (68) (io), 187 I/O (18) (71) (io), 188 I/O (74) (io), 189 I/O (77) (io), 190 I/O (A10) (80) (io), 191 I/O (A11) (83) (io), 192 I/O (86) (io), 193 I/O (89) (io), 195 I/O (92) (io), 196 I/O (95) (io), 197 I/O (98) (io), 198 I/O (101) (io), 199 I/O (A12) (104) (io), 200 I/O (A13) (107) (io), 201 I/O (110) (io), 202 I/O (113) (io), 203 I/O (A14) (116) (io), 204 I/O, SGCK1 (A15) (119) (io)
part B pins: 1 NC, 2 GND (power), 3 NC, 8 I/O, TDI (134) (io), 9 I/O, TCK (137) (io), 14 GND (power), 17 I/O, TMS (158) (io), 25 GND (power), 26 VCC (power), 37 GND (power), 48 O (M1) (242) (io), 49 GND (power), 50 I (M0) (245) (in), 51 NC, 52 NC, 53 NC, 54 NC, 55 VCC (power), 56 I (M2) (246) (in), 67 GND (power), 78 VCC (power), 79 GND (power), 90 GND (power), 101 GND (power), 102 NC, 103 DONE (io), 104 NC, 105 NC, 106 VCC (power), 107 NC, 108 ~{PROGRAM} (in), 119 GND (power), 130 VCC (power), 131 GND (power), 142 GND (power), 153 CCLK (io), 154 VCC (power), 155 NC, 156 NC, 157 NC, 158 NC, 159 O, TDO (0) (hiz), 160 GND (power), 171 GND (power), 182 GND (power), 183 VCC (power), 194 GND (power), 205 VCC (power), 206 NC, 207 NC, 208 NC

## XC4010E-2PC84C
designator U?
XC4000E FPGA, 84-Pin PLCC, Commercial Grade; ComponentAvailability: Not for New Design; Published: 28-Feb-2003; LatestRevisionDate: 13-Apr-2006; LatestRevisionNote: IPC-7351 Footprint Added.; DatasheetVersion: (v1.6) May-99; PackageVersion: ver1.2, Jun-2004; PackageReference: PC84; Publisher: Altium Limited; PackageDescription: 84-Pin Plastic Leaded Chip Carrier (PC84); Code_JEDEC: MS-047; Code_IPC: PLCC-84; ComponentLink1Description: Manufacturer Link; ComponentLink1URL: http://www.xilinx.com/; ComponentLink2Description: Datasheet; ComponentLink2URL: http://direct.xilinx.com/bvdocs/publications/4000.pdf
footprint PC84_N (Leaded Chip Carrier, 84-Leads, Body 29.3x29.3mm, Pitch 1.27mm, IPC Medium Density)
footprint PC84_L (Leaded Chip Carrier, 84-Leads, Body 29.3x29.3mm, Pitch 1.27mm, IPC High Density)
footprint PC84_M (Leaded Chip Carrier, 84-Leads, Body 29.3x29.3mm, Pitch 1.27mm, IPC Low Density)
3D model XC4010E-PC84 (84-Pin Plastic Leaded Chip Carrier (PC84))
part A pins: 3 I/O (A8) (62) (io), 4 I/O (A9) (65) (io), 5 I/O (A10) (80) (io), 6 I/O (A11) (83) (io), 7 I/O (A12) (104) (io), 8 I/O (A13) (107) (io), 9 I/O (A14) (116) (io), 10 I/O, SGCK1 (A15) (119) (io), 13 I/O, PGCK1 (A16) (122) (io), 14 I/O (A17) (125) (io), 18 I/O (161) (io), 19 I/O (176) (io), 20 I/O (179) (io), 23 I/O (182) (io), 24 I/O (185) (io), 25 I/O (200) (io), 26 I/O (203) (io), 27 I/O (224) (io), 28 I/O (236) (io), 29 I/O, SGCK2 (239) (io), 35 I/O, PGCK2 (247) (io), 36 I/O (HDC) (250) (io), 37 I/O (~{LDC}) (262) (io), 38 I/O (283) (io), 39 I/O (286) (io), 40 I/O (301) (io), 41 I/O (~{INIT}) (304) (io), 44 I/O (307) (io), 45 I/O (310) (io), 46 I/O (325) (io), 47 I/O (328) (io), 48 I/O (349) (io), 49 I/O (352) (io), 50 I/O (361) (io), 51 I/O, SGCK3 (364) (io), 56 I/O (D7) (367) (io), 57 I/O, PGCK3 (370) (io), 58 I/O (D6) (379) (io), 59 I/O (D5) (403) (io), 60 I/O (~{CS0}) (406) (io), 61 I/O (D4) (421) (io), 62 I/O (424) (io), 65 I/O (D3) (427) (io), 66 I/O (~{RS}) (430) (io), 67 I/O (D2) (445) (io), 68 I/O (448) (io), 69 I/O (D1) (469) (io), 70 I/O (~{RCLK}, RDY/~{BUSY}) (472) (io), 71 I/O (D0, DIN) (481) (io), 72 I/O, SGCK4 (DOUT) (484) (io), 77 I/O (A0, ~{WS}) (2) (io), 78 I/O, PGCK4 (A1) (5) (io), 79 I/O (CS1, A2) (14) (io), 80 I/O (A3) (17) (io), 81 I/O (A4) (38) (io), 82 I/O (A5) (41) (io), 83 I/O (A6) (56) (io), 84 I/O (A7) (59) (io)
part B pins: 1 GND (power), 2 VCC (power), 11 VCC (power), 12 GND (power), 15 I/O, TDI (134) (io), 16 I/O, TCK (137) (io), 17 I/O, TMS (158) (io), 21 GND (power), 22 VCC (power), 30 O (M1) (242) (io), 31 GND (power), 32 I (M0) (245) (in), 33 VCC (power), 34 I (M2) (246) (in), 42 VCC (power), 43 GND (power), 52 GND (power), 53 DONE (io), 54 VCC (power), 55 ~{PROGRAM} (in), 63 VCC (power), 64 GND (power), 73 CCLK (io), 74 VCC (power), 75 O, TDO (0) (hiz), 76 GND (power)

## XC4010E-2PC84I
designator U?
XC4000E FPGA, 84-Pin PLCC, Industrial Grade; ComponentAvailability: Not for New Design; Published: 28-Feb-2003; LatestRevisionDate: 13-Apr-2006; LatestRevisionNote: IPC-7351 Footprint Added.; DatasheetVersion: (v1.6) May-99; PackageVersion: ver1.2, Jun-2004; PackageReference: PC84; Publisher: Altium Limited; PackageDescription: 84-Pin Plastic Leaded Chip Carrier (PC84); Code_JEDEC: MS-047; Code_IPC: PLCC-84; ComponentLink1Description: Manufacturer Link; ComponentLink1URL: http://www.xilinx.com/; ComponentLink2Description: Datasheet; ComponentLink2URL: http://direct.xilinx.com/bvdocs/publications/4000.pdf
footprint PC84_N (Leaded Chip Carrier, 84-Leads, Body 29.3x29.3mm, Pitch 1.27mm, IPC Medium Density)
footprint PC84_L (Leaded Chip Carrier, 84-Leads, Body 29.3x29.3mm, Pitch 1.27mm, IPC High Density)
footprint PC84_M (Leaded Chip Carrier, 84-Leads, Body 29.3x29.3mm, Pitch 1.27mm, IPC Low Density)
3D model XC4010E-PC84 (84-Pin Plastic Leaded Chip Carrier (PC84))
part A pins: 3 I/O (A8) (62) (io), 4 I/O (A9) (65) (io), 5 I/O (A10) (80) (io), 6 I/O (A11) (83) (io), 7 I/O (A12) (104) (io), 8 I/O (A13) (107) (io), 9 I/O (A14) (116) (io), 10 I/O, SGCK1 (A15) (119) (io), 13 I/O, PGCK1 (A16) (122) (io), 14 I/O (A17) (125) (io), 18 I/O (161) (io), 19 I/O (176) (io), 20 I/O (179) (io), 23 I/O (182) (io), 24 I/O (185) (io), 25 I/O (200) (io), 26 I/O (203) (io), 27 I/O (224) (io), 28 I/O (236) (io), 29 I/O, SGCK2 (239) (io), 35 I/O, PGCK2 (247) (io), 36 I/O (HDC) (250) (io), 37 I/O (~{LDC}) (262) (io), 38 I/O (283) (io), 39 I/O (286) (io), 40 I/O (301) (io), 41 I/O (~{INIT}) (304) (io), 44 I/O (307) (io), 45 I/O (310) (io), 46 I/O (325) (io), 47 I/O (328) (io), 48 I/O (349) (io), 49 I/O (352) (io), 50 I/O (361) (io), 51 I/O, SGCK3 (364) (io), 56 I/O (D7) (367) (io), 57 I/O, PGCK3 (370) (io), 58 I/O (D6) (379) (io), 59 I/O (D5) (403) (io), 60 I/O (~{CS0}) (406) (io), 61 I/O (D4) (421) (io), 62 I/O (424) (io), 65 I/O (D3) (427) (io), 66 I/O (~{RS}) (430) (io), 67 I/O (D2) (445) (io), 68 I/O (448) (io), 69 I/O (D1) (469) (io), 70 I/O (~{RCLK}, RDY/~{BUSY}) (472) (io), 71 I/O (D0, DIN) (481) (io), 72 I/O, SGCK4 (DOUT) (484) (io), 77 I/O (A0, ~{WS}) (2) (io), 78 I/O, PGCK4 (A1) (5) (io), 79 I/O (CS1, A2) (14) (io), 80 I/O (A3) (17) (io), 81 I/O (A4) (38) (io), 82 I/O (A5) (41) (io), 83 I/O (A6) (56) (io), 84 I/O (A7) (59) (io)
part B pins: 1 GND (power), 2 VCC (power), 11 VCC (power), 12 GND (power), 15 I/O, TDI (134) (io), 16 I/O, TCK (137) (io), 17 I/O, TMS (158) (io), 21 GND (power), 22 VCC (power), 30 O (M1) (242) (io), 31 GND (power), 32 I (M0) (245) (in), 33 VCC (power), 34 I (M2) (246) (in), 42 VCC (power), 43 GND (power), 52 GND (power), 53 DONE (io), 54 VCC (power), 55 ~{PROGRAM} (in), 63 VCC (power), 64 GND (power), 73 CCLK (io), 74 VCC (power), 75 O, TDO (0) (hiz), 76 GND (power)

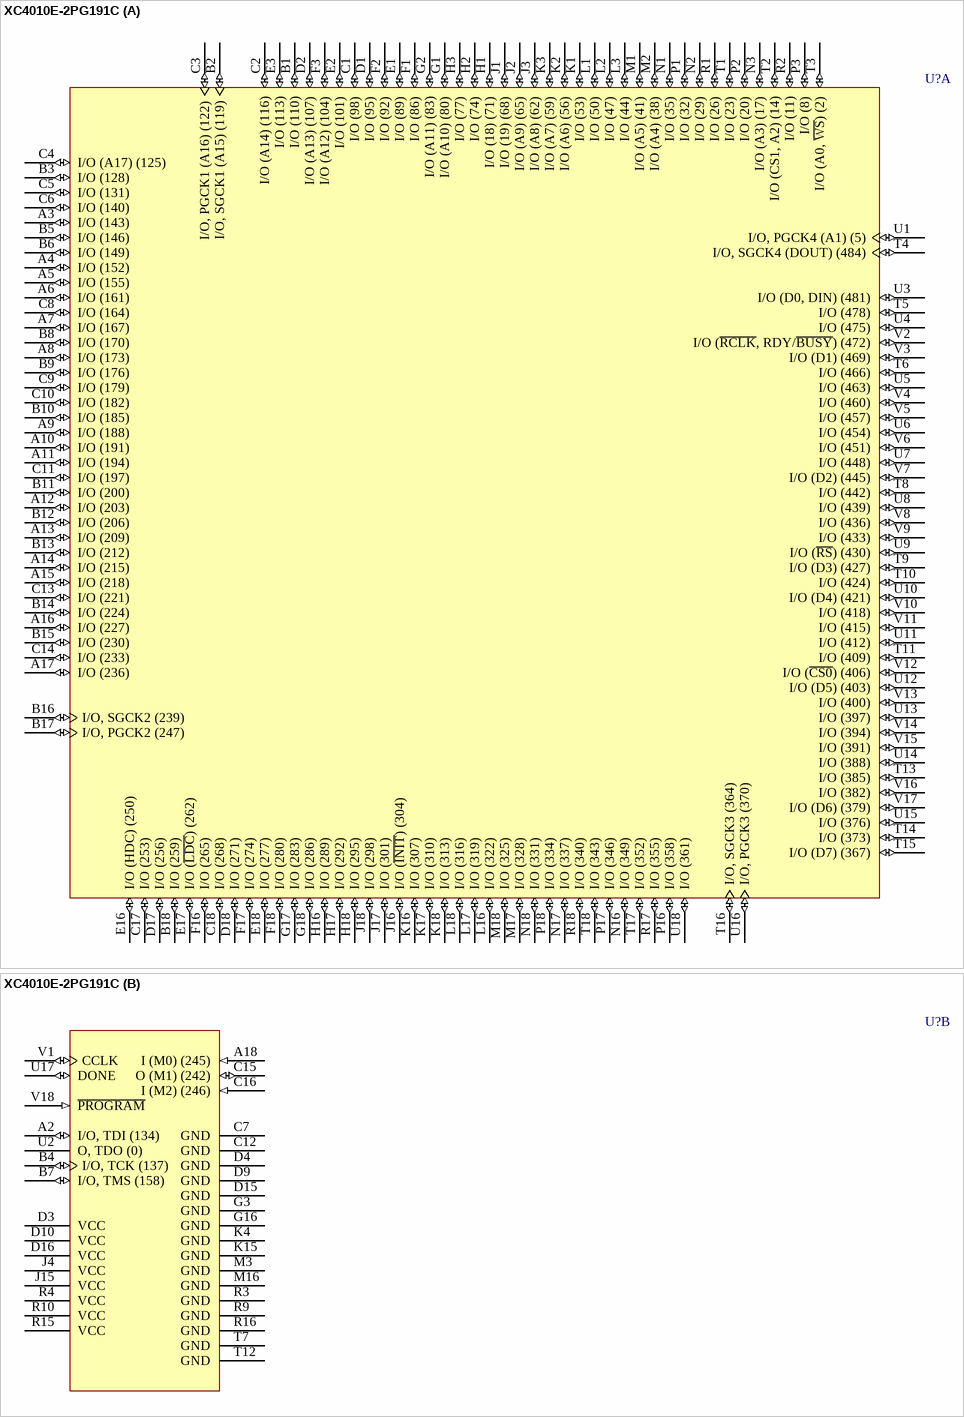
[diagram p112: symbol XC4010E-2PG191C]

## XC4010E-2PG191C
designator U?
XC4000E FPGA, 191-Pin PGA, Commercial Grade; ComponentAvailability: Not for New Design; Published: 28-Feb-2003; LatestRevisionDate: 04-Mar-2005; LatestRevisionNote: Stylized 3D Model Added.; DatasheetVersion: (v1.6) May-99; PackageVersion: ver1.1, Apr-2001; PackageReference: PG191; Publisher: Altium Limited; PackageDescription: 191-Pin Ceramic Pin Grid Array (PG191); ComponentLink1Description: Manufacturer Link; ComponentLink1URL: http://www.xilinx.com/; ComponentLink2Description: Datasheet; ComponentLink2URL: http://direct.xilinx.com/bvdocs/publications/4000.pdf; ComponentLink3Description: Discontinuation Notice; ComponentLink3URL: http://direct.xilinx.com/bvdocs/notifications/pdn2002-03.pdf
footprint PG191 (PGA, 191-Leads, Body 47x47mm, Pitch 2.54mm)
3D model XC4010E-PG191 (191-Pin Ceramic Pin Grid Array (PG191))
part A pins: A3 I/O (143) (io), A4 I/O (152) (io), A5 I/O (155) (io), A6 I/O (161) (io), A7 I/O (167) (io), A8 I/O (173) (io), A9 I/O (188) (io), A10 I/O (191) (io), A11 I/O (194) (io), A12 I/O (203) (io), A13 I/O (209) (io), A14 I/O (215) (io), A15 I/O (218) (io), A16 I/O (227) (io), A17 I/O (236) (io), B1 I/O (110) (io), B2 I/O, SGCK1 (A15) (119) (io), B3 I/O (128) (io), B5 I/O (146) (io), B6 I/O (149) (io), B8 I/O (170) (io), B9 I/O (176) (io), B10 I/O (185) (io), B11 I/O (200) (io), B12 I/O (206) (io), B13 I/O (212) (io), B14 I/O (224) (io), B15 I/O (230) (io), B16 I/O, SGCK2 (239) (io), B17 I/O, PGCK2 (247) (io), B18 I/O (259) (io), C1 I/O (98) (io), C2 I/O (A14) (116) (io), C3 I/O, PGCK1 (A16) (122) (io), C4 I/O (A17) (125) (io), C5 I/O (131) (io), C6 I/O (140) (io), C8 I/O (164) (io), C9 I/O (179) (io), C10 I/O (182) (io), C11 I/O (197) (io), C13 I/O (221) (io), C14 I/O (233) (io), C17 I/O (253) (io), C18 I/O (268) (io), D1 I/O (95) (io), D2 I/O (A13) (107) (io), D17 I/O (256) (io), D18 I/O (271) (io), E1 I/O (89) (io), E2 I/O (101) (io), E3 I/O (113) (io), E16 I/O (HDC) (250) (io), E17 I/O (~{LDC}) (262) (io), E18 I/O (277) (io), F1 I/O (86) (io), F2 I/O (92) (io), F3 I/O (A12) (104) (io), F16 I/O (265) (io), F17 I/O (274) (io), F18 I/O (280) (io), G1 I/O (A10) (80) (io), G2 I/O (A11) (83) (io), G17 I/O (283) (io), G18 I/O (286) (io), H1 I/O (18) (71) (io), H2 I/O (74) (io), H3 I/O (77) (io), H16 I/O (289) (io), H17 I/O (292) (io), H18 I/O (295) (io), J1 I/O (19) (68) (io), J2 I/O (A9) (65) (io), J3 I/O (A8) (62) (io), J16 I/O (~{INIT}) (304) (io), J17 I/O (301) (io), J18 I/O (298) (io), K1 I/O (53) (io), K2 I/O (A6) (56) (io), K3 I/O (A7) (59) (io), K16 I/O (307) (io), K17 I/O (310) (io), K18 I/O (313) (io), L1 I/O (50) (io), L2 I/O (47) (io), L3 I/O (44) (io), L16 I/O (322) (io), L17 I/O (319) (io), L18 I/O (316) (io), M1 I/O (A5) (41) (io), M2 I/O (A4) (38) (io), M17 I/O (328) (io), M18 I/O (325) (io), N1 I/O (35) (io), N2 I/O (29) (io), N3 I/O (A3) (17) (io), N16 I/O (349) (io), N17 I/O (337) (io), N18 I/O (331) (io), P1 I/O (32) (io), P2 I/O (20) (io), P3 I/O (8) (io), P16 I/O (358) (io), P17 I/O (346) (io), P18 I/O (334) (io), R1 I/O (26) (io), R2 I/O (11) (io), R17 I/O (355) (io), R18 I/O (340) (io), T1 I/O (23) (io), T2 I/O (CS1, A2) (14) (io), T3 I/O (A0, ~{WS}) (2) (io), T4 I/O, SGCK4 (DOUT) (484) (io), T5 I/O (478) (io), T6 I/O (466) (io), T8 I/O (442) (io), T9 I/O (D3) (427) (io), T10 I/O (424) (io), T11 I/O (409) (io), T13 I/O (385) (io), T14 I/O (373) (io), T15 I/O (D7) (367) (io), T16 I/O, SGCK3 (364) (io), T17 I/O (352) (io), T18 I/O (343) (io), U1 I/O, PGCK4 (A1) (5) (io), U3 I/O (D0, DIN) (481) (io), U4 I/O (475) (io), U5 I/O (463) (io), U6 I/O (454) (io), U7 I/O (448) (io), U8 I/O (439) (io), U9 I/O (~{RS}) (430) (io), U10 I/O (D4) (421) (io), U11 I/O (412) (io), U12 I/O (D5) (403) (io), U13 I/O (397) (io), U14 I/O (388) (io), U15 I/O (376) (io), U16 I/O, PGCK3 (370) (io), U18 I/O (361) (io), V2 I/O (~{RCLK}, RDY/~{BUSY}) (472) (io), V3 I/O (D1) (469) (io), V4 I/O (460) (io), V5 I/O (457) (io), V6 I/O (451) (io), V7 I/O (D2) (445) (io), V8 I/O (436) (io), V9 I/O (433) (io), V10 I/O (418) (io), V11 I/O (415) (io), V12 I/O (~{CS0}) (406) (io), V13 I/O (400) (io), V14 I/O (394) (io), V15 I/O (391) (io), V16 I/O (382) (io), V17 I/O (D6) (379) (io)
part B pins: A2 I/O, TDI (134) (io), A18 I (M0) (245) (in), B4 I/O, TCK (137) (io), B7 I/O, TMS (158) (io), C7 GND (power), C12 GND (power), C15 O (M1) (242) (io), C16 I (M2) (246) (in), D3 VCC (power), D4 GND (power), D9 GND (power), D10 VCC (power), D15 GND (power), D16 VCC (power), G3 GND (power), G16 GND (power), J4 VCC (power), J15 VCC (power), K4 GND (power), K15 GND (power), M3 GND (power), M16 GND (power), R3 GND (power), R4 VCC (power), R9 GND (power), R10 VCC (power), R15 VCC (power), R16 GND (power), T7 GND (power), T12 GND (power), U2 O, TDO (0) (hiz), U17 DONE (io), V1 CCLK (io), V18 ~{PROGRAM} (in)

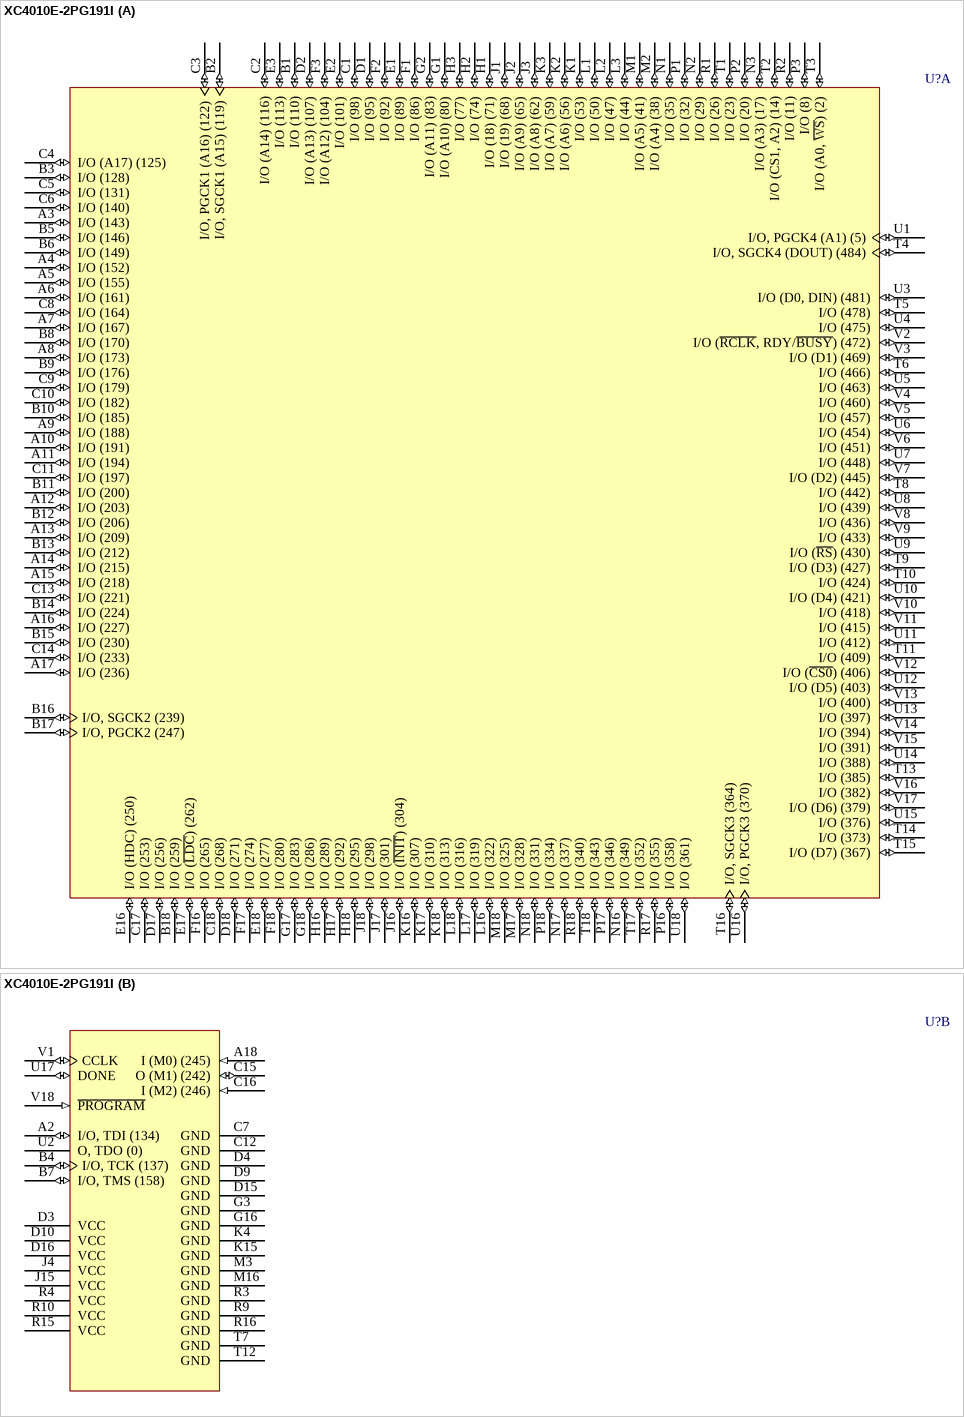
[diagram p113: symbol XC4010E-2PG191I]

## XC4010E-2PG191I
designator U?
XC4000E FPGA, 191-Pin PGA, Industrial Grade; ComponentAvailability: Not for New Design; Published: 28-Feb-2003; LatestRevisionDate: 04-Mar-2005; LatestRevisionNote: Stylized 3D Model Added.; DatasheetVersion: (v1.6) May-99; PackageVersion: ver1.1, Apr-2001; PackageReference: PG191; Publisher: Altium Limited; PackageDescription: 191-Pin Ceramic Pin Grid Array (PG191); ComponentLink1Description: Manufacturer Link; ComponentLink1URL: http://www.xilinx.com/; ComponentLink2Description: Datasheet; ComponentLink2URL: http://direct.xilinx.com/bvdocs/publications/4000.pdf; ComponentLink3Description: Discontinuation Notice; ComponentLink3URL: http://direct.xilinx.com/bvdocs/notifications/pdn2002-03.pdf
footprint PG191 (PGA, 191-Leads, Body 47x47mm, Pitch 2.54mm)
3D model XC4010E-PG191 (191-Pin Ceramic Pin Grid Array (PG191))
part A pins: A3 I/O (143) (io), A4 I/O (152) (io), A5 I/O (155) (io), A6 I/O (161) (io), A7 I/O (167) (io), A8 I/O (173) (io), A9 I/O (188) (io), A10 I/O (191) (io), A11 I/O (194) (io), A12 I/O (203) (io), A13 I/O (209) (io), A14 I/O (215) (io), A15 I/O (218) (io), A16 I/O (227) (io), A17 I/O (236) (io), B1 I/O (110) (io), B2 I/O, SGCK1 (A15) (119) (io), B3 I/O (128) (io), B5 I/O (146) (io), B6 I/O (149) (io), B8 I/O (170) (io), B9 I/O (176) (io), B10 I/O (185) (io), B11 I/O (200) (io), B12 I/O (206) (io), B13 I/O (212) (io), B14 I/O (224) (io), B15 I/O (230) (io), B16 I/O, SGCK2 (239) (io), B17 I/O, PGCK2 (247) (io), B18 I/O (259) (io), C1 I/O (98) (io), C2 I/O (A14) (116) (io), C3 I/O, PGCK1 (A16) (122) (io), C4 I/O (A17) (125) (io), C5 I/O (131) (io), C6 I/O (140) (io), C8 I/O (164) (io), C9 I/O (179) (io), C10 I/O (182) (io), C11 I/O (197) (io), C13 I/O (221) (io), C14 I/O (233) (io), C17 I/O (253) (io), C18 I/O (268) (io), D1 I/O (95) (io), D2 I/O (A13) (107) (io), D17 I/O (256) (io), D18 I/O (271) (io), E1 I/O (89) (io), E2 I/O (101) (io), E3 I/O (113) (io), E16 I/O (HDC) (250) (io), E17 I/O (~{LDC}) (262) (io), E18 I/O (277) (io), F1 I/O (86) (io), F2 I/O (92) (io), F3 I/O (A12) (104) (io), F16 I/O (265) (io), F17 I/O (274) (io), F18 I/O (280) (io), G1 I/O (A10) (80) (io), G2 I/O (A11) (83) (io), G17 I/O (283) (io), G18 I/O (286) (io), H1 I/O (18) (71) (io), H2 I/O (74) (io), H3 I/O (77) (io), H16 I/O (289) (io), H17 I/O (292) (io), H18 I/O (295) (io), J1 I/O (19) (68) (io), J2 I/O (A9) (65) (io), J3 I/O (A8) (62) (io), J16 I/O (~{INIT}) (304) (io), J17 I/O (301) (io), J18 I/O (298) (io), K1 I/O (53) (io), K2 I/O (A6) (56) (io), K3 I/O (A7) (59) (io), K16 I/O (307) (io), K17 I/O (310) (io), K18 I/O (313) (io), L1 I/O (50) (io), L2 I/O (47) (io), L3 I/O (44) (io), L16 I/O (322) (io), L17 I/O (319) (io), L18 I/O (316) (io), M1 I/O (A5) (41) (io), M2 I/O (A4) (38) (io), M17 I/O (328) (io), M18 I/O (325) (io), N1 I/O (35) (io), N2 I/O (29) (io), N3 I/O (A3) (17) (io), N16 I/O (349) (io), N17 I/O (337) (io), N18 I/O (331) (io), P1 I/O (32) (io), P2 I/O (20) (io), P3 I/O (8) (io), P16 I/O (358) (io), P17 I/O (346) (io), P18 I/O (334) (io), R1 I/O (26) (io), R2 I/O (11) (io), R17 I/O (355) (io), R18 I/O (340) (io), T1 I/O (23) (io), T2 I/O (CS1, A2) (14) (io), T3 I/O (A0, ~{WS}) (2) (io), T4 I/O, SGCK4 (DOUT) (484) (io), T5 I/O (478) (io), T6 I/O (466) (io), T8 I/O (442) (io), T9 I/O (D3) (427) (io), T10 I/O (424) (io), T11 I/O (409) (io), T13 I/O (385) (io), T14 I/O (373) (io), T15 I/O (D7) (367) (io), T16 I/O, SGCK3 (364) (io), T17 I/O (352) (io), T18 I/O (343) (io), U1 I/O, PGCK4 (A1) (5) (io), U3 I/O (D0, DIN) (481) (io), U4 I/O (475) (io), U5 I/O (463) (io), U6 I/O (454) (io), U7 I/O (448) (io), U8 I/O (439) (io), U9 I/O (~{RS}) (430) (io), U10 I/O (D4) (421) (io), U11 I/O (412) (io), U12 I/O (D5) (403) (io), U13 I/O (397) (io), U14 I/O (388) (io), U15 I/O (376) (io), U16 I/O, PGCK3 (370) (io), U18 I/O (361) (io), V2 I/O (~{RCLK}, RDY/~{BUSY}) (472) (io), V3 I/O (D1) (469) (io), V4 I/O (460) (io), V5 I/O (457) (io), V6 I/O (451) (io), V7 I/O (D2) (445) (io), V8 I/O (436) (io), V9 I/O (433) (io), V10 I/O (418) (io), V11 I/O (415) (io), V12 I/O (~{CS0}) (406) (io), V13 I/O (400) (io), V14 I/O (394) (io), V15 I/O (391) (io), V16 I/O (382) (io), V17 I/O (D6) (379) (io)
part B pins: A2 I/O, TDI (134) (io), A18 I (M0) (245) (in), B4 I/O, TCK (137) (io), B7 I/O, TMS (158) (io), C7 GND (power), C12 GND (power), C15 O (M1) (242) (io), C16 I (M2) (246) (in), D3 VCC (power), D4 GND (power), D9 GND (power), D10 VCC (power), D15 GND (power), D16 VCC (power), G3 GND (power), G16 GND (power), J4 VCC (power), J15 VCC (power), K4 GND (power), K15 GND (power), M3 GND (power), M16 GND (power), R3 GND (power), R4 VCC (power), R9 GND (power), R10 VCC (power), R15 VCC (power), R16 GND (power), T7 GND (power), T12 GND (power), U2 O, TDO (0) (hiz), U17 DONE (io), V1 CCLK (io), V18 ~{PROGRAM} (in)

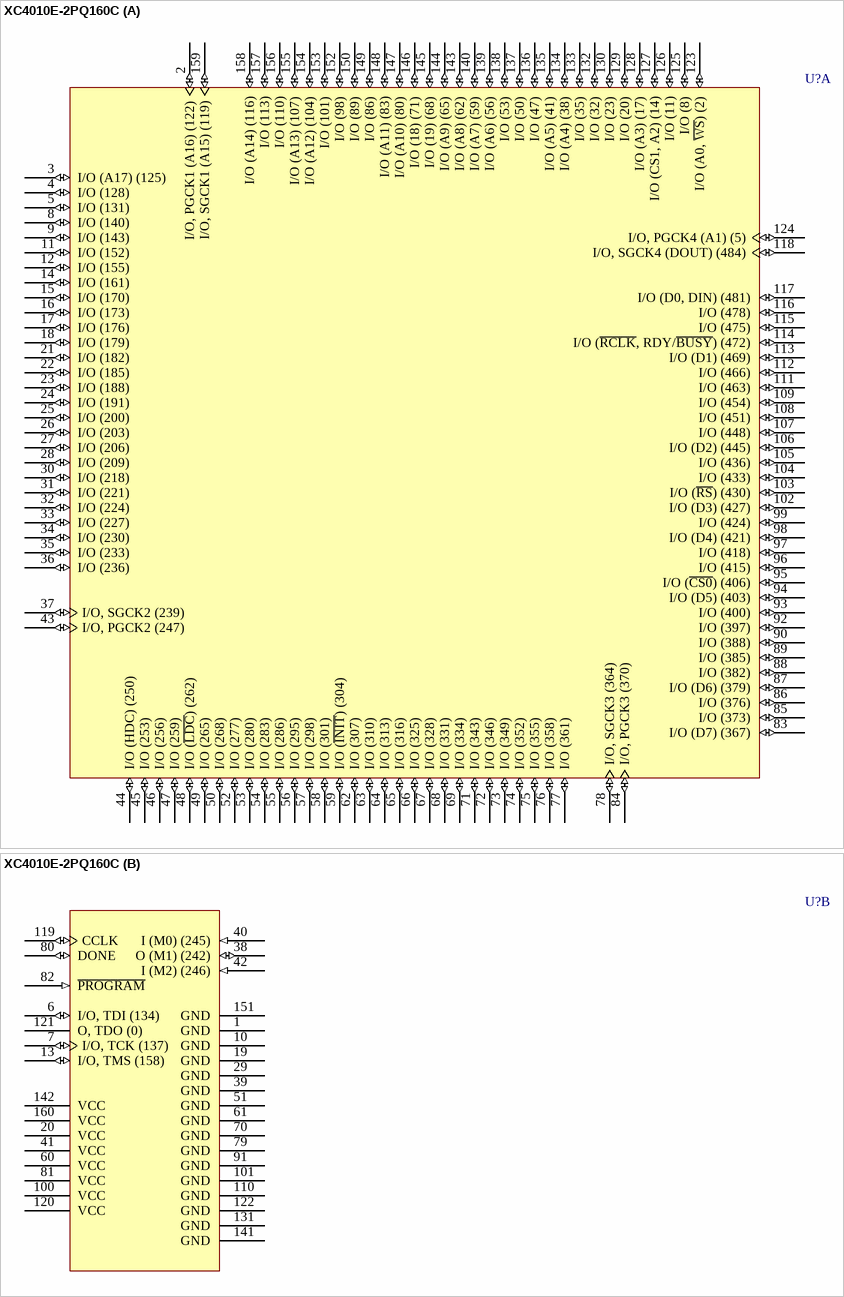
[diagram p114: symbol XC4010E-2PQ160C]

## XC4010E-2PQ160C
designator U?
XC4000E FPGA, 160-Pin PQFP, Commercial Grade; ComponentAvailability: Not for New Design; Published: 28-Feb-2003; LatestRevisionDate: 13-Apr-2006; LatestRevisionNote: IPC-7351 Footprint Added.; DatasheetVersion: (v1.6) May-99; PackageVersion: ver1.2, Jun-2004; PackageReference: PQ160; Publisher: Altium Limited; PackageDescription: 160-Pin Plastic Quad Flat Pack (PQ160); Code_JEDEC: MS-022-DD1; Code_IPC: QFP65P3120X3120-160; ComponentLink1Description: Manufacturer Link; ComponentLink1URL: http://www.xilinx.com/; ComponentLink2Description: Datasheet; ComponentLink2URL: http://direct.xilinx.com/bvdocs/publications/4000.pdf
footprint PQ160_N (QFP, 160-Leads, Body 28 x 28mm, Pitch 0.65mm, IPC Medium Density)
footprint PQ160_L (QFP, 160-Leads, Body 28 x 28mm, Pitch 0.65mm, IPC High Density)
footprint PQ160_M (QFP, 160-Leads, Body 28 x 28mm, Pitch 0.65mm, IPC Low Density)
3D model XC4010E-PQ160 (160-Pin Plastic Quad Flat Pack (PQ160))
part A pins: 2 I/O, PGCK1 (A16) (122) (io), 3 I/O (A17) (125) (io), 4 I/O (128) (io), 5 I/O (131) (io), 8 I/O (140) (io), 9 I/O (143) (io), 11 I/O (152) (io), 12 I/O (155) (io), 14 I/O (161) (io), 15 I/O (170) (io), 16 I/O (173) (io), 17 I/O (176) (io), 18 I/O (179) (io), 21 I/O (182) (io), 22 I/O (185) (io), 23 I/O (188) (io), 24 I/O (191) (io), 25 I/O (200) (io), 26 I/O (203) (io), 27 I/O (206) (io), 28 I/O (209) (io), 30 I/O (218) (io), 31 I/O (221) (io), 32 I/O (224) (io), 33 I/O (227) (io), 34 I/O (230) (io), 35 I/O (233) (io), 36 I/O (236) (io), 37 I/O, SGCK2 (239) (io), 43 I/O, PGCK2 (247) (io), 44 I/O (HDC) (250) (io), 45 I/O (253) (io), 46 I/O (256) (io), 47 I/O (259) (io), 48 I/O (~{LDC}) (262) (io), 49 I/O (265) (io), 50 I/O (268) (io), 52 I/O (277) (io), 53 I/O (280) (io), 54 I/O (283) (io), 55 I/O (286) (io), 56 I/O (295) (io), 57 I/O (298) (io), 58 I/O (301) (io), 59 I/O (~{INIT}) (304) (io), 62 I/O (307) (io), 63 I/O (310) (io), 64 I/O (313) (io), 65 I/O (316) (io), 66 I/O (325) (io), 67 I/O (328) (io), 68 I/O (331) (io), 69 I/O (334) (io), 71 I/O (343) (io), 72 I/O (346) (io), 73 I/O (349) (io), 74 I/O (352) (io), 75 I/O (355) (io), 76 I/O (358) (io), 77 I/O (361) (io), 78 I/O, SGCK3 (364) (io), 83 I/O (D7) (367) (io), 84 I/O, PGCK3 (370) (io), 85 I/O (373) (io), 86 I/O (376) (io), 87 I/O (D6) (379) (io), 88 I/O (382) (io), 89 I/O (385) (io), 90 I/O (388) (io), 92 I/O (397) (io), 93 I/O (400) (io), 94 I/O (D5) (403) (io), 95 I/O (~{CS0}) (406) (io), 96 I/O (415) (io), 97 I/O (418) (io), 98 I/O (D4) (421) (io), 99 I/O (424) (io), 102 I/O (D3) (427) (io), 103 I/O (~{RS}) (430) (io), 104 I/O (433) (io), 105 I/O (436) (io), 106 I/O (D2) (445) (io), 107 I/O (448) (io), 108 I/O (451) (io), 109 I/O (454) (io), 111 I/O (463) (io), 112 I/O (466) (io), 113 I/O (D1) (469) (io), 114 I/O (~{RCLK}, RDY/~{BUSY}) (472) (io), 115 I/O (475) (io), 116 I/O (478) (io), 117 I/O (D0, DIN) (481) (io), 118 I/O, SGCK4 (DOUT) (484) (io), 123 I/O (A0, ~{WS}) (2) (io), 124 I/O, PGCK4 (A1) (5) (io), 125 I/O (8) (io), 126 I/O (11) (io), 127 I/O (CS1, A2) (14) (io), 128 I/O (A3) (17) (io), 129 I/O (20) (io), 130 I/O (23) (io), 132 I/O (32) (io), 133 I/O (35) (io), 134 I/O (A4) (38) (io), 135 I/O (A5) (41) (io), 136 I/O (47) (io), 137 I/O (50) (io), 138 I/O (53) (io), 139 I/O (A6) (56) (io), 140 I/O (A7) (59) (io), 143 I/O (A8) (62) (io), 144 I/O (A9) (65) (io), 145 I/O (19) (68) (io), 146 I/O (18) (71) (io), 147 I/O (A10) (80) (io), 148 I/O (A11) (83) (io), 149 I/O (86) (io), 150 I/O (89) (io), 152 I/O (98) (io), 153 I/O (101) (io), 154 I/O (A12) (104) (io), 155 I/O (A13) (107) (io), 156 I/O (110) (io), 157 I/O (113) (io), 158 I/O (A14) (116) (io), 159 I/O, SGCK1 (A15) (119) (io)
part B pins: 1 GND (power), 6 I/O, TDI (134) (io), 7 I/O, TCK (137) (io), 10 GND (power), 13 I/O, TMS (158) (io), 19 GND (power), 20 VCC (power), 29 GND (power), 38 O (M1) (242) (io), 39 GND (power), 40 I (M0) (245) (in), 41 VCC (power), 42 I (M2) (246) (in), 51 GND (power), 60 VCC (power), 61 GND (power), 70 GND (power), 79 GND (power), 80 DONE (io), 81 VCC (power), 82 ~{PROGRAM} (in), 91 GND (power), 100 VCC (power), 101 GND (power), 110 GND (power), 119 CCLK (io), 120 VCC (power), 121 O, TDO (0) (hiz), 122 GND (power), 131 GND (power), 141 GND (power), 142 VCC (power), 151 GND (power), 160 VCC (power)

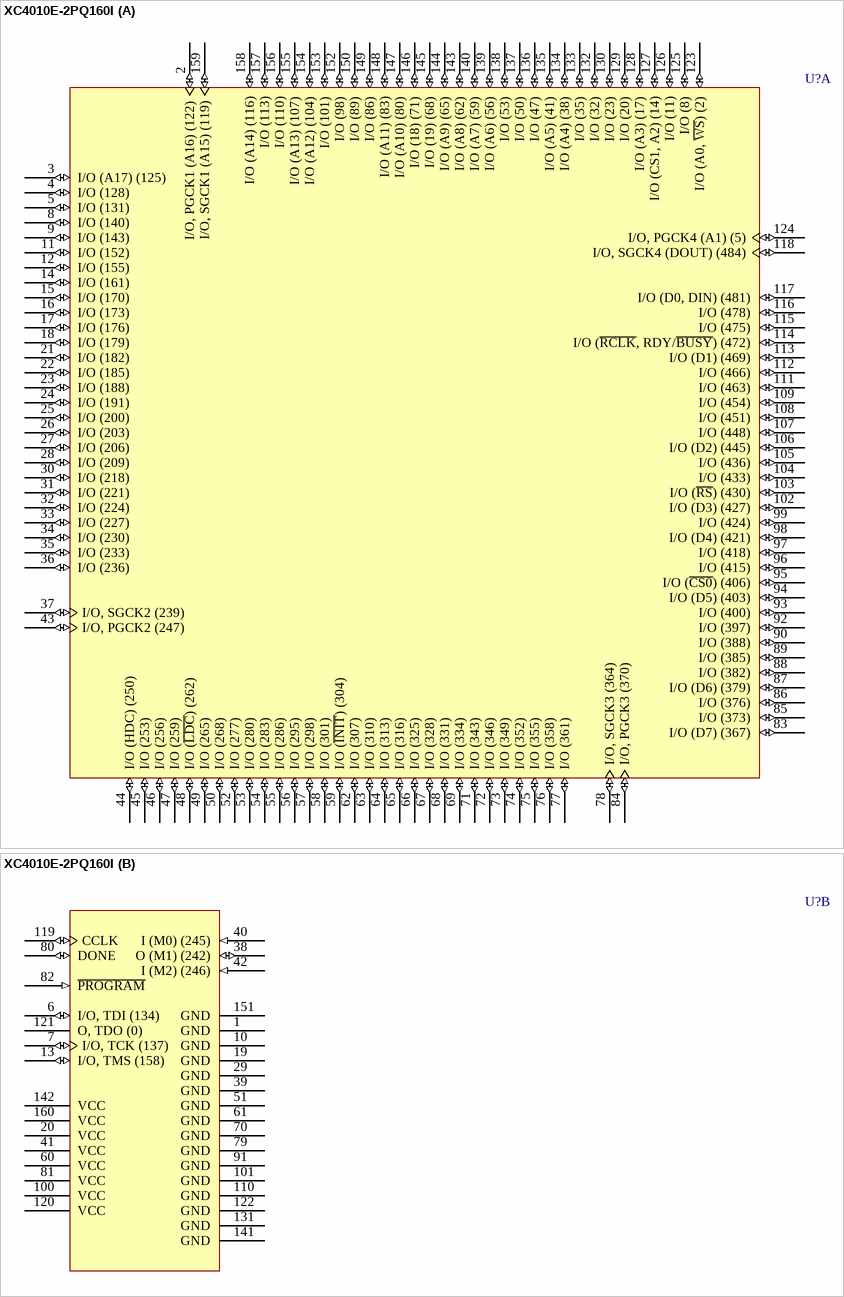
[diagram p115: symbol XC4010E-2PQ160I]